# Altium integrated library National Semiconductor ADC.IntLib: 538 symbols (part 4 of 19)
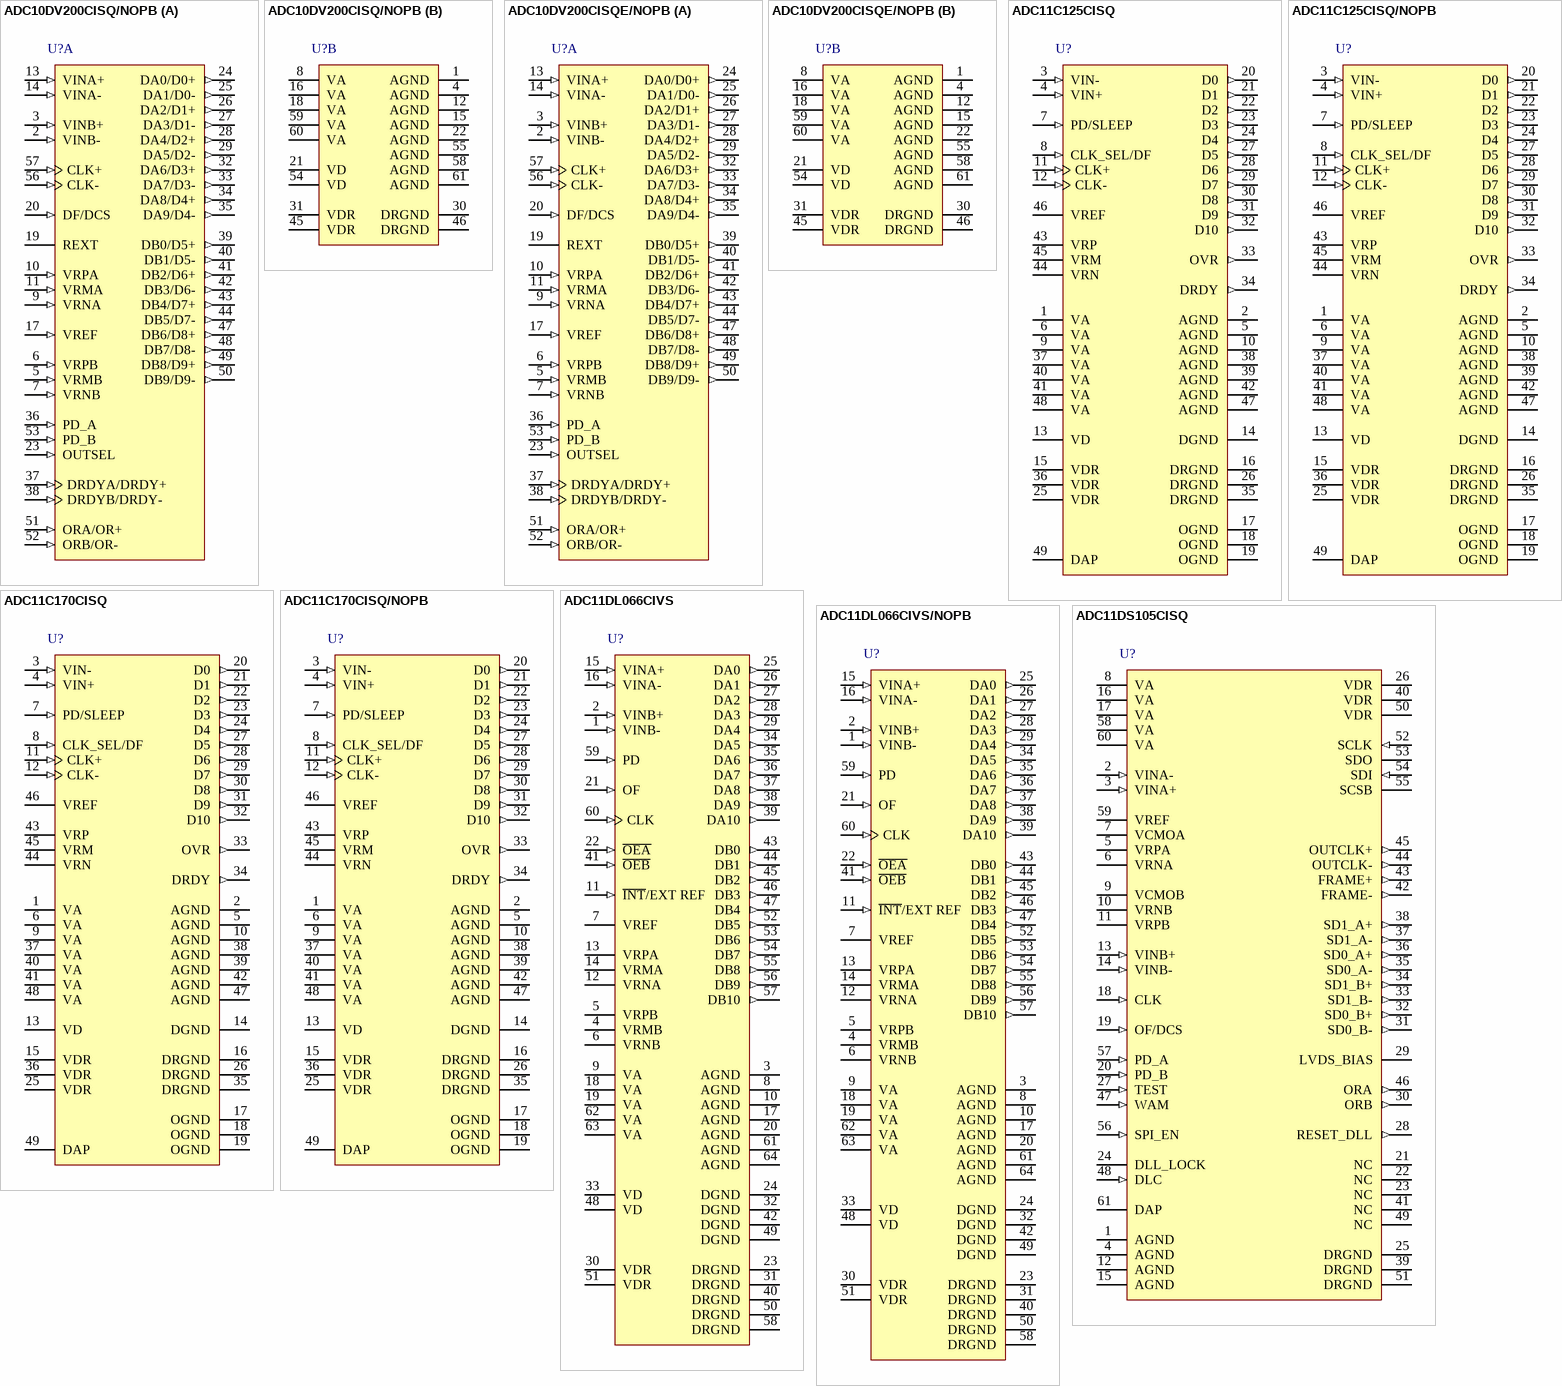
[diagram p48: symbols ADC10DV200CISQ/NOPB to ADC11DS105CISQ]

## ADC11DL066CIVS/NOPB
designator U?
Dual 11-Bit, 66 MSPS, 450 MHz Input Bandwidth A/D Converter w/Internal Reference, 64-pin TQFP, Pb-Free; PartNumber: ADC11DL066CIVS/NOPB; Manufacturer: National Semiconductor; PackageTopMarking: NSUZXYYTTE#*ADC11DL066*CIVS; PowerWise: N; CompType: ADC IC; High-Reliability: Y; DatasheetVersion: Mar-2004; PackageVersion: revB, Jul-2003; PackageReference: VEC64A; PackageDescription: TQFP, Jedec Metric, 10 x 10 x 1.0mm, 64 Lead, 0.5mm Pitch; RoHS: Y; PinCount: 64; Code_JEDEC: MS-026-ACD; ComponentLink1Description: ADC11DL066 Datasheet; ComponentLink1URL: http://www.national.com/ds/AD/ADC11DL066.pdf; ComponentLink2Description: ADC11DL066 Web Page; ComponentLink2URL: http://www.national.com/pf/AD/ADC11DL066.html; ComponentLink3Description: VEC64A Package Page; ComponentLink3URL: http://www.national.com/packaging/folders/vec64a.html
footprint VEC64A_N (Thin QFP, 64-Leads, Body 10x10mm, Pitch 0.5mm, IPC Medium Density)
footprint VEC64A_L (Thin QFP, 64-Leads, Body 10x10mm, Pitch 0.5mm, IPC High Density)
footprint VEC64A_M (Thin QFP, 64-Leads, Body 10x10mm, Pitch 0.5mm, IPC Low Density)
pins: 1 VINB- (in), 2 VINB+ (in), 3 AGND (power), 4 VRMB, 5 VRPB, 6 VRNB, 7 VREF (power), 8 AGND (power), 9 VA (power), 10 AGND (power), 11 ~{INT}/EXT REF (in), 12 VRNA, 13 VRPA, 14 VRMA, 15 VINA+ (in), 16 VINA- (in), 17 AGND (power), 18 VA (power), 19 VA (power), 20 AGND (power), 21 OF (in), 22 ~{OEA} (in), 23 DRGND (power), 24 DGND (power), 25 DA0 (out), 26 DA1 (out), 27 DA2 (out), 28 DA3 (out), 29 DA4 (out), 30 VDR (power), 31 DRGND (power), 32 DGND (power), 33 VD (power), 34 DA5 (out), 35 DA6 (out), 36 DA7 (out), 37 DA8 (out), 38 DA9 (out), 39 DA10 (out), 40 DRGND (power), 41 ~{OEB} (in), 42 DGND (power), 43 DB0 (out), 44 DB1 (out), 45 DB2 (out), 46 DB3 (out), 47 DB4 (out), 48 VD (power), 49 DGND (power), 50 DRGND (power), 51 VDR (power), 52 DB5 (out), 53 DB6 (out), 54 DB7 (out), 55 DB8 (out), 56 DB9 (out), 57 DB10 (out), 58 DRGND (power), 59 PD (in), 60 CLK (in), 61 AGND (power), 62 VA (power), 63 VA (power), 64 AGND (power)

## ADC11DS105CISQ
designator U?
Dual 11-Bit, 105 MSPS A/D Converter with Serial LVDS Outputs, 60 pin LLP; PartNumber: ADC11DS105CISQ; Manufacturer: National Semiconductor; PackageTopMarking: NS*UZXYTT*11DS105; PowerWise: N; CompType: ADC IC; High-Reliability: Y; DatasheetVersion: Nov-2009; PackageVersion: revA, Jun-2005; PackageReference: SQA60A; PackageDescription: LLP, Quad, 9 x 9 x 0.8mm, 60 Lead, 0.5mm Pitch, No Pullback; RoHS: N; PinCount: 60; ComponentLink1Description: ADC11DS105 Datasheet; ComponentLink1URL: http://www.national.com/ds/AD/ADC11DS105.pdf; ComponentLink2Description: ADC11DS105 Web Page; ComponentLink2URL: http://www.national.com/pf/AD/ADC11DS105.html; ComponentLink3Description: SQA60A Package Page; ComponentLink3URL: http://www.national.com/packaging/folders/sqa60a.html
footprint SQA60A (QFN, 60-Leads, Body 9x9mm, Pitch 0.5mm, Thermal Pad 7.3x7.3mm, NSC Recommended)
pins: 1 AGND (power), 2 VINA- (in), 3 VINA+ (in), 4 AGND (power), 5 VRPA, 6 VRNA, 7 VCMOA, 8 VA (power), 9 VCMOB, 10 VRNB, 11 VRPB, 12 AGND (power), 13 VINB+ (in), 14 VINB- (in), 15 AGND (power), 16 VA (power), 17 VA (power), 18 CLK (in), 19 OF/DCS (in), 20 PD_B (in), 21 NC, 22 NC, 23 NC, 24 DLL_LOCK, 25 DRGND (power), 26 VDR, 27 TEST (in), 28 RESET_DLL (out), 29 LVDS_BIAS, 30 ORB (out), 31 SD0_B- (out), 32 SD0_B+ (out), 33 SD1_B- (out), 34 SD1_B+ (out), 35 SD0_A- (out), 36 SD0_A+ (out), 37 SD1_A- (out), 38 SD1_A+ (out), 39 DRGND (power), 40 VDR, 41 NC, 42 FRAME- (out), 43 FRAME+ (out), 44 OUTCLK- (out), 45 OUTCLK+ (out), 46 ORA (out), 47 WAM (in), 48 DLC (in), 49 NC, 50 VDR, 51 DRGND (power), 52 SCLK (in), 53 SDO (hiz), 54 SDI (in), 55 SCSB, 56 SPI_EN (in), 57 PD_A (in), 58 VA (power), 59 VREF, 60 VA (power), 61 DAP

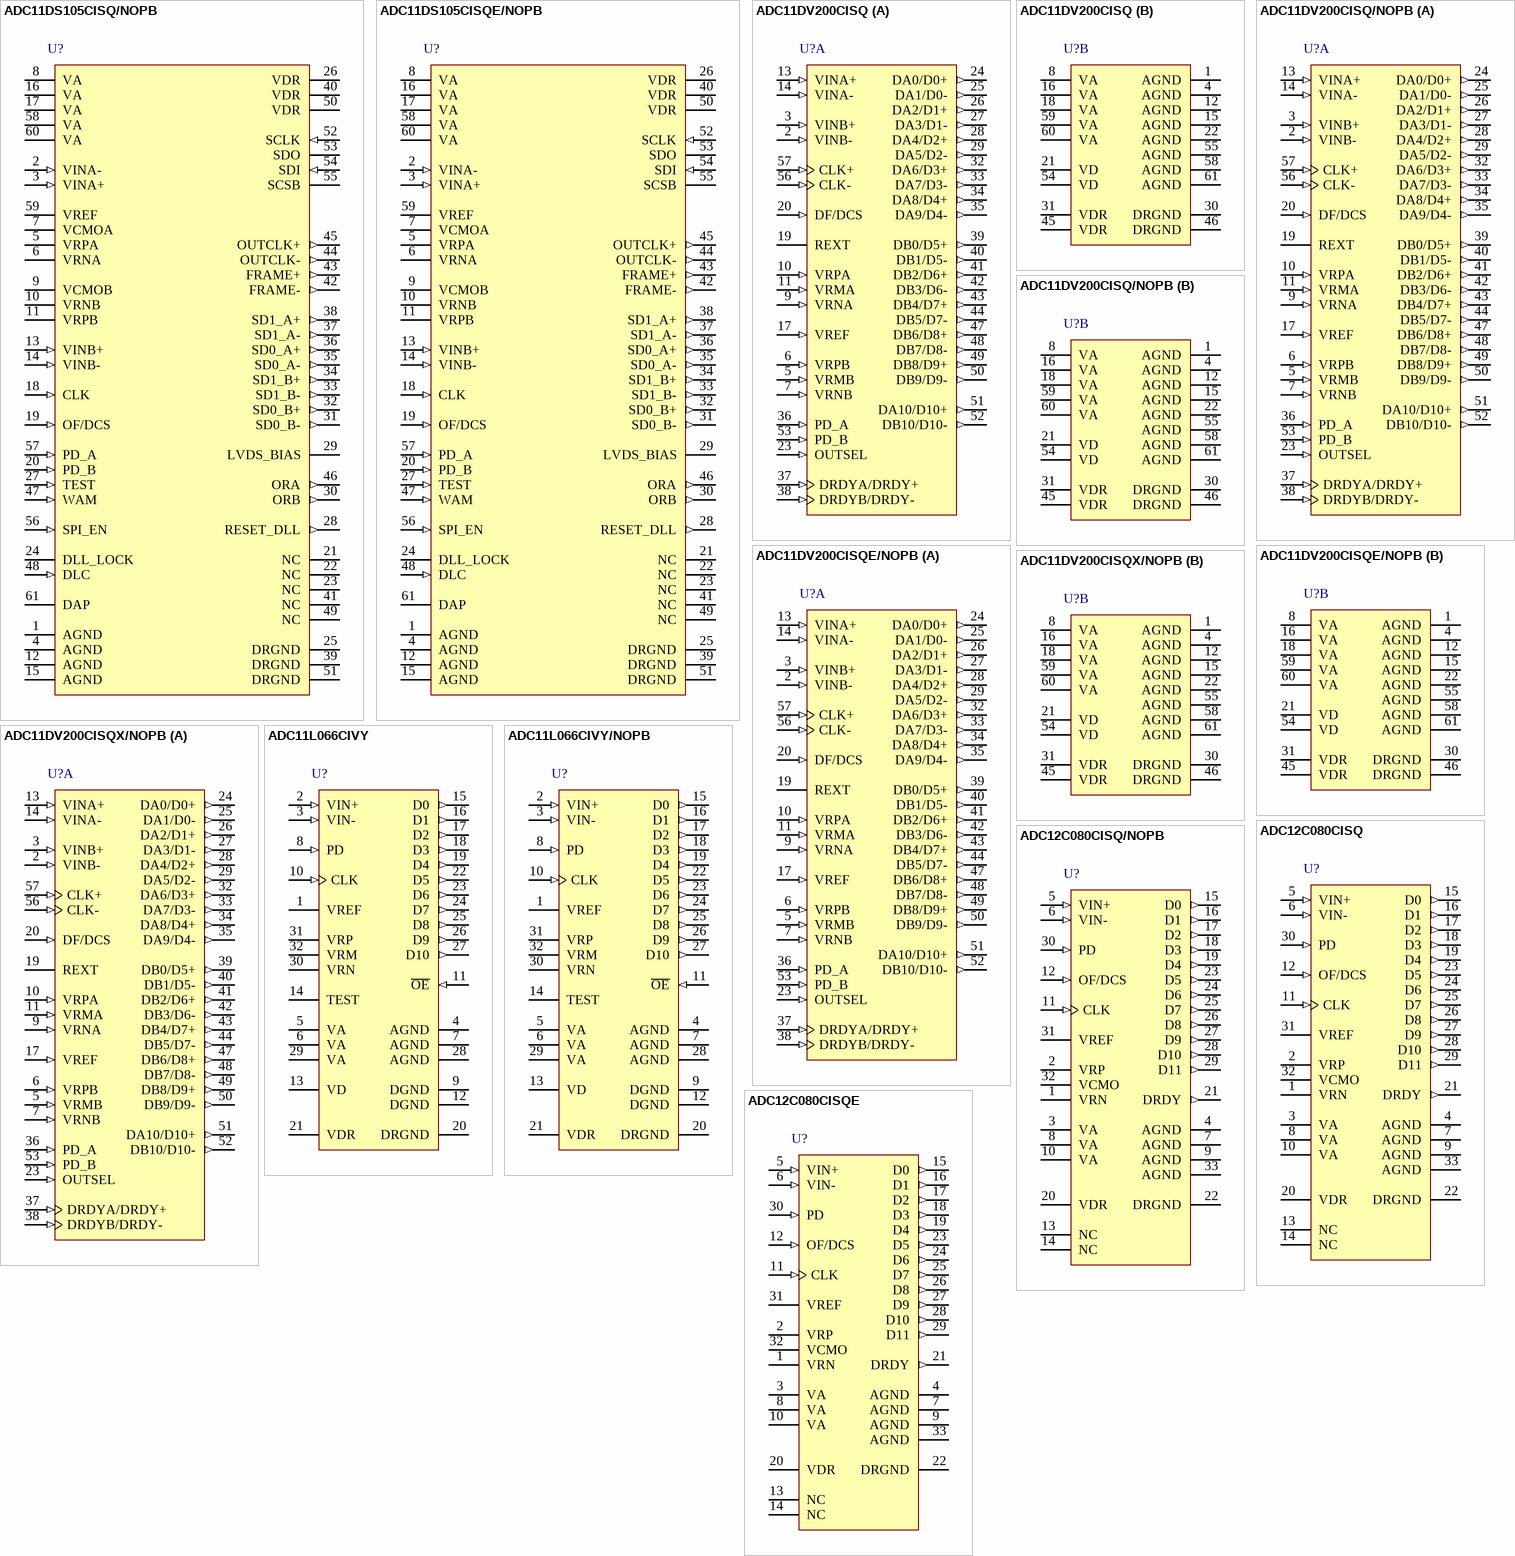
[diagram p12: symbols ADC11DS105CISQ/NOPB to ADC12C080CISQE]

## ADC11DS105CISQ/NOPB
designator U?
Dual 11-Bit, 105 MSPS A/D Converter with Serial LVDS Outputs, 60-pin LLP, Pb-Free; PartNumber: ADC11DS105CISQ/NOPB; Manufacturer: National Semiconductor; PackageTopMarking: NS*UZXYTTE#*11DS105; PowerWise: N; CompType: ADC IC; High-Reliability: Y; DatasheetVersion: Nov-2009; PackageVersion: revA, Jun-2005; PackageReference: SQA60A; PackageDescription: LLP, Quad, 9 x 9 x 0.8mm, 60 Lead, 0.5mm Pitch, No Pullback; RoHS: Y; PinCount: 60; ComponentLink1Description: ADC11DS105 Datasheet; ComponentLink1URL: http://www.national.com/ds/AD/ADC11DS105.pdf; ComponentLink2Description: ADC11DS105 Web Page; ComponentLink2URL: http://www.national.com/pf/AD/ADC11DS105.html; ComponentLink3Description: SQA60A Package Page; ComponentLink3URL: http://www.national.com/packaging/folders/sqa60a.html
footprint SQA60A (QFN, 60-Leads, Body 9x9mm, Pitch 0.5mm, Thermal Pad 7.3x7.3mm, NSC Recommended)
pins: 1 AGND (power), 2 VINA- (in), 3 VINA+ (in), 4 AGND (power), 5 VRPA, 6 VRNA, 7 VCMOA, 8 VA (power), 9 VCMOB, 10 VRNB, 11 VRPB, 12 AGND (power), 13 VINB+ (in), 14 VINB- (in), 15 AGND (power), 16 VA (power), 17 VA (power), 18 CLK (in), 19 OF/DCS (in), 20 PD_B (in), 21 NC, 22 NC, 23 NC, 24 DLL_LOCK, 25 DRGND (power), 26 VDR, 27 TEST (in), 28 RESET_DLL (out), 29 LVDS_BIAS, 30 ORB (out), 31 SD0_B- (out), 32 SD0_B+ (out), 33 SD1_B- (out), 34 SD1_B+ (out), 35 SD0_A- (out), 36 SD0_A+ (out), 37 SD1_A- (out), 38 SD1_A+ (out), 39 DRGND (power), 40 VDR, 41 NC, 42 FRAME- (out), 43 FRAME+ (out), 44 OUTCLK- (out), 45 OUTCLK+ (out), 46 ORA (out), 47 WAM (in), 48 DLC (in), 49 NC, 50 VDR, 51 DRGND (power), 52 SCLK (in), 53 SDO (hiz), 54 SDI (in), 55 SCSB, 56 SPI_EN (in), 57 PD_A (in), 58 VA (power), 59 VREF, 60 VA (power), 61 DAP

## ADC11DS105CISQE/NOPB
designator U?
Dual 11-Bit, 105 MSPS A/D Converter with Serial LVDS Outputs, 60-pin LLP, Pb-Free; PartNumber: ADC11DS105CISQE/NOPB; Manufacturer: National Semiconductor; PackageTopMarking: NS*UZXYTTE#*11DS105; PowerWise: N; CompType: ADC IC; High-Reliability: Y; DatasheetVersion: Nov-2009; PackageVersion: revA, Jun-2005; PackageReference: SQA60A; PackageDescription: LLP, Quad, 9 x 9 x 0.8mm, 60 Lead, 0.5mm Pitch, No Pullback; RoHS: Y; PinCount: 60; ComponentLink1Description: ADC11DS105 Datasheet; ComponentLink1URL: http://www.national.com/ds/AD/ADC11DS105.pdf; ComponentLink2Description: ADC11DS105 Web Page; ComponentLink2URL: http://www.national.com/pf/AD/ADC11DS105.html; ComponentLink3Description: SQA60A Package Page; ComponentLink3URL: http://www.national.com/packaging/folders/sqa60a.html
footprint SQA60A (QFN, 60-Leads, Body 9x9mm, Pitch 0.5mm, Thermal Pad 7.3x7.3mm, NSC Recommended)
pins: 1 AGND (power), 2 VINA- (in), 3 VINA+ (in), 4 AGND (power), 5 VRPA, 6 VRNA, 7 VCMOA, 8 VA (power), 9 VCMOB, 10 VRNB, 11 VRPB, 12 AGND (power), 13 VINB+ (in), 14 VINB- (in), 15 AGND (power), 16 VA (power), 17 VA (power), 18 CLK (in), 19 OF/DCS (in), 20 PD_B (in), 21 NC, 22 NC, 23 NC, 24 DLL_LOCK, 25 DRGND (power), 26 VDR, 27 TEST (in), 28 RESET_DLL (out), 29 LVDS_BIAS, 30 ORB (out), 31 SD0_B- (out), 32 SD0_B+ (out), 33 SD1_B- (out), 34 SD1_B+ (out), 35 SD0_A- (out), 36 SD0_A+ (out), 37 SD1_A- (out), 38 SD1_A+ (out), 39 DRGND (power), 40 VDR, 41 NC, 42 FRAME- (out), 43 FRAME+ (out), 44 OUTCLK- (out), 45 OUTCLK+ (out), 46 ORA (out), 47 WAM (in), 48 DLC (in), 49 NC, 50 VDR, 51 DRGND (power), 52 SCLK (in), 53 SDO (hiz), 54 SDI (in), 55 SCSB, 56 SPI_EN (in), 57 PD_A (in), 58 VA (power), 59 VREF, 60 VA (power), 61 DAP

## ADC11DV200CISQ
designator U?
Dual 11-bit, 200 MSPS Low-Power A/D Converter with Parallel LVDS/CMOS Outputs, 60 pin LLP; PartNumber: ADC11DV200CISQ; Manufacturer: National Semiconductor; PackageTopMarking: NS*UZXYTT*11DV200*CISQ; PowerWise: N; CompType: ADC IC; High-Reliability: Y; DatasheetVersion: Apr-2009; PackageVersion: revA, Jun-2005; PackageReference: SQA60A; PackageDescription: LLP, Quad, 9 x 9 x 0.8mm, 60 Lead, 0.5mm Pitch, No Pullback; RoHS: Y; PinCount: 60; ComponentLink1Description: ADC11DV200 Datasheet; ComponentLink1URL: http://www.national.com/ds/AD/ADC11DV200.pdf; ComponentLink2Description: ADC11DV200 Web Page; ComponentLink2URL: http://www.national.com/pf/AD/ADC11DV200.html; ComponentLink3Description: SQA60A Package Page; ComponentLink3URL: http://www.national.com/packaging/folders/sqa60a.html
footprint SQA60A (QFN, 60-Leads, Body 9x9mm, Pitch 0.5mm, Thermal Pad 7.3x7.3mm, NSC Recommended)
part A pins: 2 VINB- (in), 3 VINB+ (in), 5 VRMB (in), 6 VRPB (in), 7 VRNB (in), 9 VRNA (in), 10 VRPA (in), 11 VRMA (in), 13 VINA+ (in), 14 VINA- (in), 17 VREF (in), 19 REXT, 20 DF/DCS (in), 23 OUTSEL (in), 24 DA0/D0+ (out), 25 DA1/D0- (out), 26 DA2/D1+ (out), 27 DA3/D1- (out), 28 DA4/D2+ (out), 29 DA5/D2- (out), 32 DA6/D3+ (out), 33 DA7/D3- (out), 34 DA8/D4+ (out), 35 DA9/D4- (out), 36 PD_A (in), 37 DRDYA/DRDY+ (in), 38 DRDYB/DRDY- (in), 39 DB0/D5+ (out), 40 DB1/D5- (out), 41 DB2/D6+ (out), 42 DB3/D6- (out), 43 DB4/D7+ (out), 44 DB5/D7- (out), 47 DB6/D8+ (out), 48 DB7/D8- (out), 49 DB8/D9+ (out), 50 DB9/D9- (out), 51 DA10/D10+ (out), 52 DB10/D10- (out), 53 PD_B (in), 56 CLK- (in), 57 CLK+ (in)
part B pins: 1 AGND (power), 4 AGND (power), 8 VA (power), 12 AGND (power), 15 AGND (power), 16 VA (power), 18 VA (power), 21 VD (power), 22 AGND (power), 30 DRGND (power), 31 VDR (power), 45 VDR (power), 46 DRGND (power), 54 VD (power), 55 AGND (power), 58 AGND (power), 59 VA (power), 60 VA (power), 61 AGND (power)

## ADC11DV200CISQ/NOPB
designator U?
Dual 11-bit, 200 MSPS Low-Power A/D Converter with Parallel LVDS/CMOS Outputs, 60-pin LLP, Pb-Free; PartNumber: ADC11DV200CISQ/NOPB; Manufacturer: National Semiconductor; PackageTopMarking: NS*UZXYTTE#*11DV200*CISQ; PowerWise: Y; CompType: ADC IC; DatasheetVersion: Apr-2009; PackageVersion: revA, Jun-2005; PackageReference: SQA60A; PackageDescription: LLP, Quad, 9 x 9 x 0.8mm, 60 Lead, 0.5mm Pitch, No Pullback; RoHS: Y; PinCount: 60; High-Reliability: Y; ComponentLink1Description: ADC11DV200 Datasheet; ComponentLink1URL: http://www.national.com/ds/AD/ADC11DV200.pdf; ComponentLink2Description: ADC11DV200 Web Page; ComponentLink2URL: http://www.national.com/pf/AD/ADC11DV200.html; ComponentLink3Description: SQA60A Package Page; ComponentLink3URL: http://www.national.com/packaging/folders/sqa60a.html
footprint SQA60A (QFN, 60-Leads, Body 9x9mm, Pitch 0.5mm, Thermal Pad 7.3x7.3mm, NSC Recommended)
part A pins: 2 VINB- (in), 3 VINB+ (in), 5 VRMB (in), 6 VRPB (in), 7 VRNB (in), 9 VRNA (in), 10 VRPA (in), 11 VRMA (in), 13 VINA+ (in), 14 VINA- (in), 17 VREF (in), 19 REXT, 20 DF/DCS (in), 23 OUTSEL (in), 24 DA0/D0+ (out), 25 DA1/D0- (out), 26 DA2/D1+ (out), 27 DA3/D1- (out), 28 DA4/D2+ (out), 29 DA5/D2- (out), 32 DA6/D3+ (out), 33 DA7/D3- (out), 34 DA8/D4+ (out), 35 DA9/D4- (out), 36 PD_A (in), 37 DRDYA/DRDY+ (in), 38 DRDYB/DRDY- (in), 39 DB0/D5+ (out), 40 DB1/D5- (out), 41 DB2/D6+ (out), 42 DB3/D6- (out), 43 DB4/D7+ (out), 44 DB5/D7- (out), 47 DB6/D8+ (out), 48 DB7/D8- (out), 49 DB8/D9+ (out), 50 DB9/D9- (out), 51 DA10/D10+ (out), 52 DB10/D10- (out), 53 PD_B (in), 56 CLK- (in), 57 CLK+ (in)
part B pins: 1 AGND (power), 4 AGND (power), 8 VA (power), 12 AGND (power), 15 AGND (power), 16 VA (power), 18 VA (power), 21 VD (power), 22 AGND (power), 30 DRGND (power), 31 VDR (power), 45 VDR (power), 46 DRGND (power), 54 VD (power), 55 AGND (power), 58 AGND (power), 59 VA (power), 60 VA (power), 61 AGND (power)

## ADC11DV200CISQE/NOPB
designator U?
Dual 11-bit, 200 MSPS Low-Power A/D Converter with Parallel LVDS/CMOS Outputs, 60-pin LLP, Pb-Free; PartNumber: ADC11DV200CISQE/NOPB; Manufacturer: National Semiconductor; PackageTopMarking: NS*UZXYTTE#*11DV200*CISQ; PowerWise: Y; CompType: ADC IC; DatasheetVersion: Apr-2009; PackageVersion: revA, Jun-2005; PackageReference: SQA60A; PackageDescription: LLP, Quad, 9 x 9 x 0.8mm, 60 Lead, 0.5mm Pitch, No Pullback; RoHS: Y; PinCount: 60; High-Reliability: Y; ComponentLink1Description: ADC11DV200 Datasheet; ComponentLink1URL: http://www.national.com/ds/AD/ADC11DV200.pdf; ComponentLink2Description: ADC11DV200 Web Page; ComponentLink2URL: http://www.national.com/pf/AD/ADC11DV200.html; ComponentLink3Description: SQA60A Package Page; ComponentLink3URL: http://www.national.com/packaging/folders/sqa60a.html
footprint SQA60A (QFN, 60-Leads, Body 9x9mm, Pitch 0.5mm, Thermal Pad 7.3x7.3mm, NSC Recommended)
part A pins: 2 VINB- (in), 3 VINB+ (in), 5 VRMB (in), 6 VRPB (in), 7 VRNB (in), 9 VRNA (in), 10 VRPA (in), 11 VRMA (in), 13 VINA+ (in), 14 VINA- (in), 17 VREF (in), 19 REXT, 20 DF/DCS (in), 23 OUTSEL (in), 24 DA0/D0+ (out), 25 DA1/D0- (out), 26 DA2/D1+ (out), 27 DA3/D1- (out), 28 DA4/D2+ (out), 29 DA5/D2- (out), 32 DA6/D3+ (out), 33 DA7/D3- (out), 34 DA8/D4+ (out), 35 DA9/D4- (out), 36 PD_A (in), 37 DRDYA/DRDY+ (in), 38 DRDYB/DRDY- (in), 39 DB0/D5+ (out), 40 DB1/D5- (out), 41 DB2/D6+ (out), 42 DB3/D6- (out), 43 DB4/D7+ (out), 44 DB5/D7- (out), 47 DB6/D8+ (out), 48 DB7/D8- (out), 49 DB8/D9+ (out), 50 DB9/D9- (out), 51 DA10/D10+ (out), 52 DB10/D10- (out), 53 PD_B (in), 56 CLK- (in), 57 CLK+ (in)
part B pins: 1 AGND (power), 4 AGND (power), 8 VA (power), 12 AGND (power), 15 AGND (power), 16 VA (power), 18 VA (power), 21 VD (power), 22 AGND (power), 30 DRGND (power), 31 VDR (power), 45 VDR (power), 46 DRGND (power), 54 VD (power), 55 AGND (power), 58 AGND (power), 59 VA (power), 60 VA (power), 61 AGND (power)

## ADC11DV200CISQX/NOPB
designator U?
Dual 11-bit, 200 MSPS Low-Power A/D Converter with Parallel LVDS/CMOS Outputs, 60-pin LLP, Pb-Free; PartNumber: ADC11DV200CISQX/NOPB; Manufacturer: National Semiconductor; PackageTopMarking: NS*UZXYTTE#*11DV200*CISQ; PowerWise: Y; CompType: ADC IC; DatasheetVersion: Apr-2009; PackageVersion: revA, Jun-2005; PackageReference: SQA60A; PackageDescription: LLP, Quad, 9 x 9 x 0.8mm, 60 Lead, 0.5mm Pitch, No Pullback; RoHS: Y; PinCount: 60; High-Reliability: Y; ComponentLink1Description: ADC11DV200 Datasheet; ComponentLink1URL: http://www.national.com/ds/AD/ADC11DV200.pdf; ComponentLink2Description: ADC11DV200 Web Page; ComponentLink2URL: http://www.national.com/pf/AD/ADC11DV200.html; ComponentLink3Description: SQA60A Package Page; ComponentLink3URL: http://www.national.com/packaging/folders/sqa60a.html
footprint SQA60A (QFN, 60-Leads, Body 9x9mm, Pitch 0.5mm, Thermal Pad 7.3x7.3mm, NSC Recommended)
part A pins: 2 VINB- (in), 3 VINB+ (in), 5 VRMB (in), 6 VRPB (in), 7 VRNB (in), 9 VRNA (in), 10 VRPA (in), 11 VRMA (in), 13 VINA+ (in), 14 VINA- (in), 17 VREF (in), 19 REXT, 20 DF/DCS (in), 23 OUTSEL (in), 24 DA0/D0+ (out), 25 DA1/D0- (out), 26 DA2/D1+ (out), 27 DA3/D1- (out), 28 DA4/D2+ (out), 29 DA5/D2- (out), 32 DA6/D3+ (out), 33 DA7/D3- (out), 34 DA8/D4+ (out), 35 DA9/D4- (out), 36 PD_A (in), 37 DRDYA/DRDY+ (in), 38 DRDYB/DRDY- (in), 39 DB0/D5+ (out), 40 DB1/D5- (out), 41 DB2/D6+ (out), 42 DB3/D6- (out), 43 DB4/D7+ (out), 44 DB5/D7- (out), 47 DB6/D8+ (out), 48 DB7/D8- (out), 49 DB8/D9+ (out), 50 DB9/D9- (out), 51 DA10/D10+ (out), 52 DB10/D10- (out), 53 PD_B (in), 56 CLK- (in), 57 CLK+ (in)
part B pins: 1 AGND (power), 4 AGND (power), 8 VA (power), 12 AGND (power), 15 AGND (power), 16 VA (power), 18 VA (power), 21 VD (power), 22 AGND (power), 30 DRGND (power), 31 VDR (power), 45 VDR (power), 46 DRGND (power), 54 VD (power), 55 AGND (power), 58 AGND (power), 59 VA (power), 60 VA (power), 61 AGND (power)

## ADC11L066CIVY
designator U?
11-Bit, 66 MSPS, 450 MHz Bandwidth A/D Converter with Internal Sample-and-Hold, 32-pin LQFP; PartNumber: ADC11L066CIVY; Manufacturer: National Semiconductor; PackageTopMarking: NSUZXYTT*ADC11L0*66CIVY; PowerWise: N; CompType: ADC IC; High-Reliability: Y; DatasheetVersion: May-2009; PackageVersion: revE, Dec-1999; PackageReference: VBE32A; PackageDescription: LQFP, JEDEC, Metric, 7 x 7 x 1.4mm, 32 Lead; RoHS: N; PinCount: 32; ComponentLink1Description: ADC11L066 Datasheet; ComponentLink1URL: http://www.national.com/ds/AD/ADC11L066.pdf; ComponentLink2Description: ADC11L066 Web Page; ComponentLink2URL: http://www.national.com/pf/AD/ADC11L066.html; ComponentLink3Description: VBE32A Package Page; ComponentLink3URL: http://www.national.com/packaging/folders/vbe32a.html
footprint VBE32A_N (Thin QFP, 32-Leads, Body 7x7mm, Pitch 0.8mm, IPC Medium Density)
footprint VBE32A_L (Thin QFP, 32-Leads, Body 7x7mm, Pitch 0.8mm, IPC High Density)
footprint VBE32A_M (Thin QFP, 32-Leads, Body 7x7mm, Pitch 0.8mm, IPC Low Density)
pins: 1 VREF (power), 2 VIN+ (in), 3 VIN- (in), 4 AGND (power), 5 VA (power), 6 VA (power), 7 AGND (power), 8 PD (in), 9 DGND (power), 10 CLK (in), 11 ~{OE} (in), 12 DGND (power), 13 VD (power), 14 TEST, 15 D0 (out), 16 D1 (out), 17 D2 (out), 18 D3 (out), 19 D4 (out), 20 DRGND (power), 21 VDR (power), 22 D5 (out), 23 D6 (out), 24 D7 (out), 25 D8 (out), 26 D9 (out), 27 D10 (out), 28 AGND (power), 29 VA (power), 30 VRN, 31 VRP, 32 VRM

## ADC11L066CIVY/NOPB
designator U?
11-Bit, 66 MSPS, 450 MHz Bandwidth A/D Converter with Internal Sample-and-Hold, 32-pin LQFP, Pb-Free; PartNumber: ADC11L066CIVY/NOPB; Manufacturer: National Semiconductor; PackageTopMarking: NSUZXYTT*ADC11L0*66CIVY; PowerWise: N; CompType: ADC IC; High-Reliability: Y; DatasheetVersion: May-2009; PackageVersion: revE, Dec-1999; PackageReference: VBE32A; PackageDescription: LQFP, JEDEC, Metric, 7 x 7 x 1.4mm, 32 Lead; RoHS: Y; PinCount: 32; ComponentLink1Description: ADC11L066 Datasheet; ComponentLink1URL: http://www.national.com/ds/AD/ADC11L066.pdf; ComponentLink2Description: ADC11L066 Web Page; ComponentLink2URL: http://www.national.com/pf/AD/ADC11L066.html; ComponentLink3Description: VBE32A Package Page; ComponentLink3URL: http://www.national.com/packaging/folders/vbe32a.html
footprint VBE32A_N (Thin QFP, 32-Leads, Body 7x7mm, Pitch 0.8mm, IPC Medium Density)
footprint VBE32A_L (Thin QFP, 32-Leads, Body 7x7mm, Pitch 0.8mm, IPC High Density)
footprint VBE32A_M (Thin QFP, 32-Leads, Body 7x7mm, Pitch 0.8mm, IPC Low Density)
pins: 1 VREF (power), 2 VIN+ (in), 3 VIN- (in), 4 AGND (power), 5 VA (power), 6 VA (power), 7 AGND (power), 8 PD (in), 9 DGND (power), 10 CLK (in), 11 ~{OE} (in), 12 DGND (power), 13 VD (power), 14 TEST, 15 D0 (out), 16 D1 (out), 17 D2 (out), 18 D3 (out), 19 D4 (out), 20 DRGND (power), 21 VDR (power), 22 D5 (out), 23 D6 (out), 24 D7 (out), 25 D8 (out), 26 D9 (out), 27 D10 (out), 28 AGND (power), 29 VA (power), 30 VRN, 31 VRP, 32 VRM

## ADC12C080CISQ
designator U?
12-Bit, 65/80 MSPS A/D Converter, 33-pin LLP; PartNumber: ADC12C080CISQ; Manufacturer: National Semiconductor; PackageTopMarking: NS*UZXYTT*12C080; PowerWise: Y; CompType: ADC IC; DatasheetVersion: Aug-2007; PackageVersion: revB, Oct-2009; PackageReference: SQA32A; PackageDescription: LLP, Quad, 5 x 5 x 0.8mm, 32 Lead, 0.5mm Pitch, No Pullback 3.1 x 3.1 Exposed Pad; RoHS: N; PinCount: 32; High-Reliability: Y; ComponentLink1Description: ADC12C080 Datasheet; ComponentLink1URL: http://www.national.com/ds/AD/ADC12C080.pdf; ComponentLink2Description: ADC12C080 Web Page; ComponentLink2URL: http://www.national.com/pf/AD/ADC12C080.html; ComponentLink3Description: SQA32A Package Page; ComponentLink3URL: http://www.national.com/packaging/folders/sqa32a.html
footprint SQA32A (QFN, 32-Leads, Body 5x5mm, Pitch 0.5mm, Thermal Pad 3.2x3.2mm, NSC Recommended)
pins: 1 VRN, 2 VRP, 3 VA (power), 4 AGND (power), 5 VIN+ (in), 6 VIN- (in), 7 AGND (power), 8 VA (power), 9 AGND (power), 10 VA (power), 11 CLK (in), 12 OF/DCS (in), 13 NC, 14 NC, 15 D0 (out), 16 D1 (out), 17 D2 (out), 18 D3 (out), 19 D4 (out), 20 VDR (power), 21 DRDY (out), 22 DRGND (power), 23 D5 (out), 24 D6 (out), 25 D7 (out), 26 D8 (out), 27 D9 (out), 28 D10 (out), 29 D11 (out), 30 PD (in), 31 VREF (power), 32 VCMO, 33 AGND (power)

## ADC12C080CISQ/NOPB
designator U?
12-Bit, 65/80 MSPS A/D Converter, 32-pin LLP, Pb-Free; PartNumber: ADC12C080CISQ/NOPB; Manufacturer: National Semiconductor; PackageTopMarking: NS*UZXYTT*12C080; PowerWise: Y; CompType: ADC IC; DatasheetVersion: Aug-2007; PackageVersion: revB, Oct-2009; PackageReference: SQA32A; PackageDescription: LLP, Quad, 5 x 5 x 0.8mm, 32 Lead, 0.5mm Pitch, No Pullback 3.1 x 3.1 Exposed Pad; RoHS: Y; PinCount: 32; High-Reliability: Y; ComponentLink1Description: ADC12C080 Datasheet; ComponentLink1URL: http://www.national.com/ds/AD/ADC12C080.pdf; ComponentLink2Description: ADC12C080 Web Page; ComponentLink2URL: http://www.national.com/pf/AD/ADC12C080.html; ComponentLink3Description: SQA32A Package Page; ComponentLink3URL: http://www.national.com/packaging/folders/sqa32a.html
footprint SQA32A (QFN, 32-Leads, Body 5x5mm, Pitch 0.5mm, Thermal Pad 3.2x3.2mm, NSC Recommended)
pins: 1 VRN, 2 VRP, 3 VA (power), 4 AGND (power), 5 VIN+ (in), 6 VIN- (in), 7 AGND (power), 8 VA (power), 9 AGND (power), 10 VA (power), 11 CLK (in), 12 OF/DCS (in), 13 NC, 14 NC, 15 D0 (out), 16 D1 (out), 17 D2 (out), 18 D3 (out), 19 D4 (out), 20 VDR (power), 21 DRDY (out), 22 DRGND (power), 23 D5 (out), 24 D6 (out), 25 D7 (out), 26 D8 (out), 27 D9 (out), 28 D10 (out), 29 D11 (out), 30 PD (in), 31 VREF (power), 32 VCMO, 33 AGND (power)

## ADC12C080CISQE
designator U?
12-Bit, 65/80 MSPS A/D Converter, 33-pin LLP; PartNumber: ADC12C080CISQE; Manufacturer: National Semiconductor; PackageTopMarking: NS*UZXYTT*12C080E; PowerWise: Y; CompType: ADC IC; DatasheetVersion: Aug-2007; PackageVersion: revB, Oct-2009; PackageReference: SQA32A; PackageDescription: LLP, Quad, 5 x 5 x 0.8mm, 32 Lead, 0.5mm Pitch, No Pullback 3.1 x 3.1 Exposed Pad; RoHS: Y; PinCount: 32; High-Reliability: Y; ComponentLink1Description: ADC12C080 Datasheet; ComponentLink1URL: http://www.national.com/ds/AD/ADC12C080.pdf; ComponentLink2Description: ADC12C080 Web Page; ComponentLink2URL: http://www.national.com/pf/AD/ADC12C080.html; ComponentLink3Description: SQA32A Package Page; ComponentLink3URL: http://www.national.com/packaging/folders/sqa32a.html
footprint SQA32A (QFN, 32-Leads, Body 5x5mm, Pitch 0.5mm, Thermal Pad 3.2x3.2mm, NSC Recommended)
pins: 1 VRN, 2 VRP, 3 VA (power), 4 AGND (power), 5 VIN+ (in), 6 VIN- (in), 7 AGND (power), 8 VA (power), 9 AGND (power), 10 VA (power), 11 CLK (in), 12 OF/DCS (in), 13 NC, 14 NC, 15 D0 (out), 16 D1 (out), 17 D2 (out), 18 D3 (out), 19 D4 (out), 20 VDR (power), 21 DRDY (out), 22 DRGND (power), 23 D5 (out), 24 D6 (out), 25 D7 (out), 26 D8 (out), 27 D9 (out), 28 D10 (out), 29 D11 (out), 30 PD (in), 31 VREF (power), 32 VCMO, 33 AGND (power)

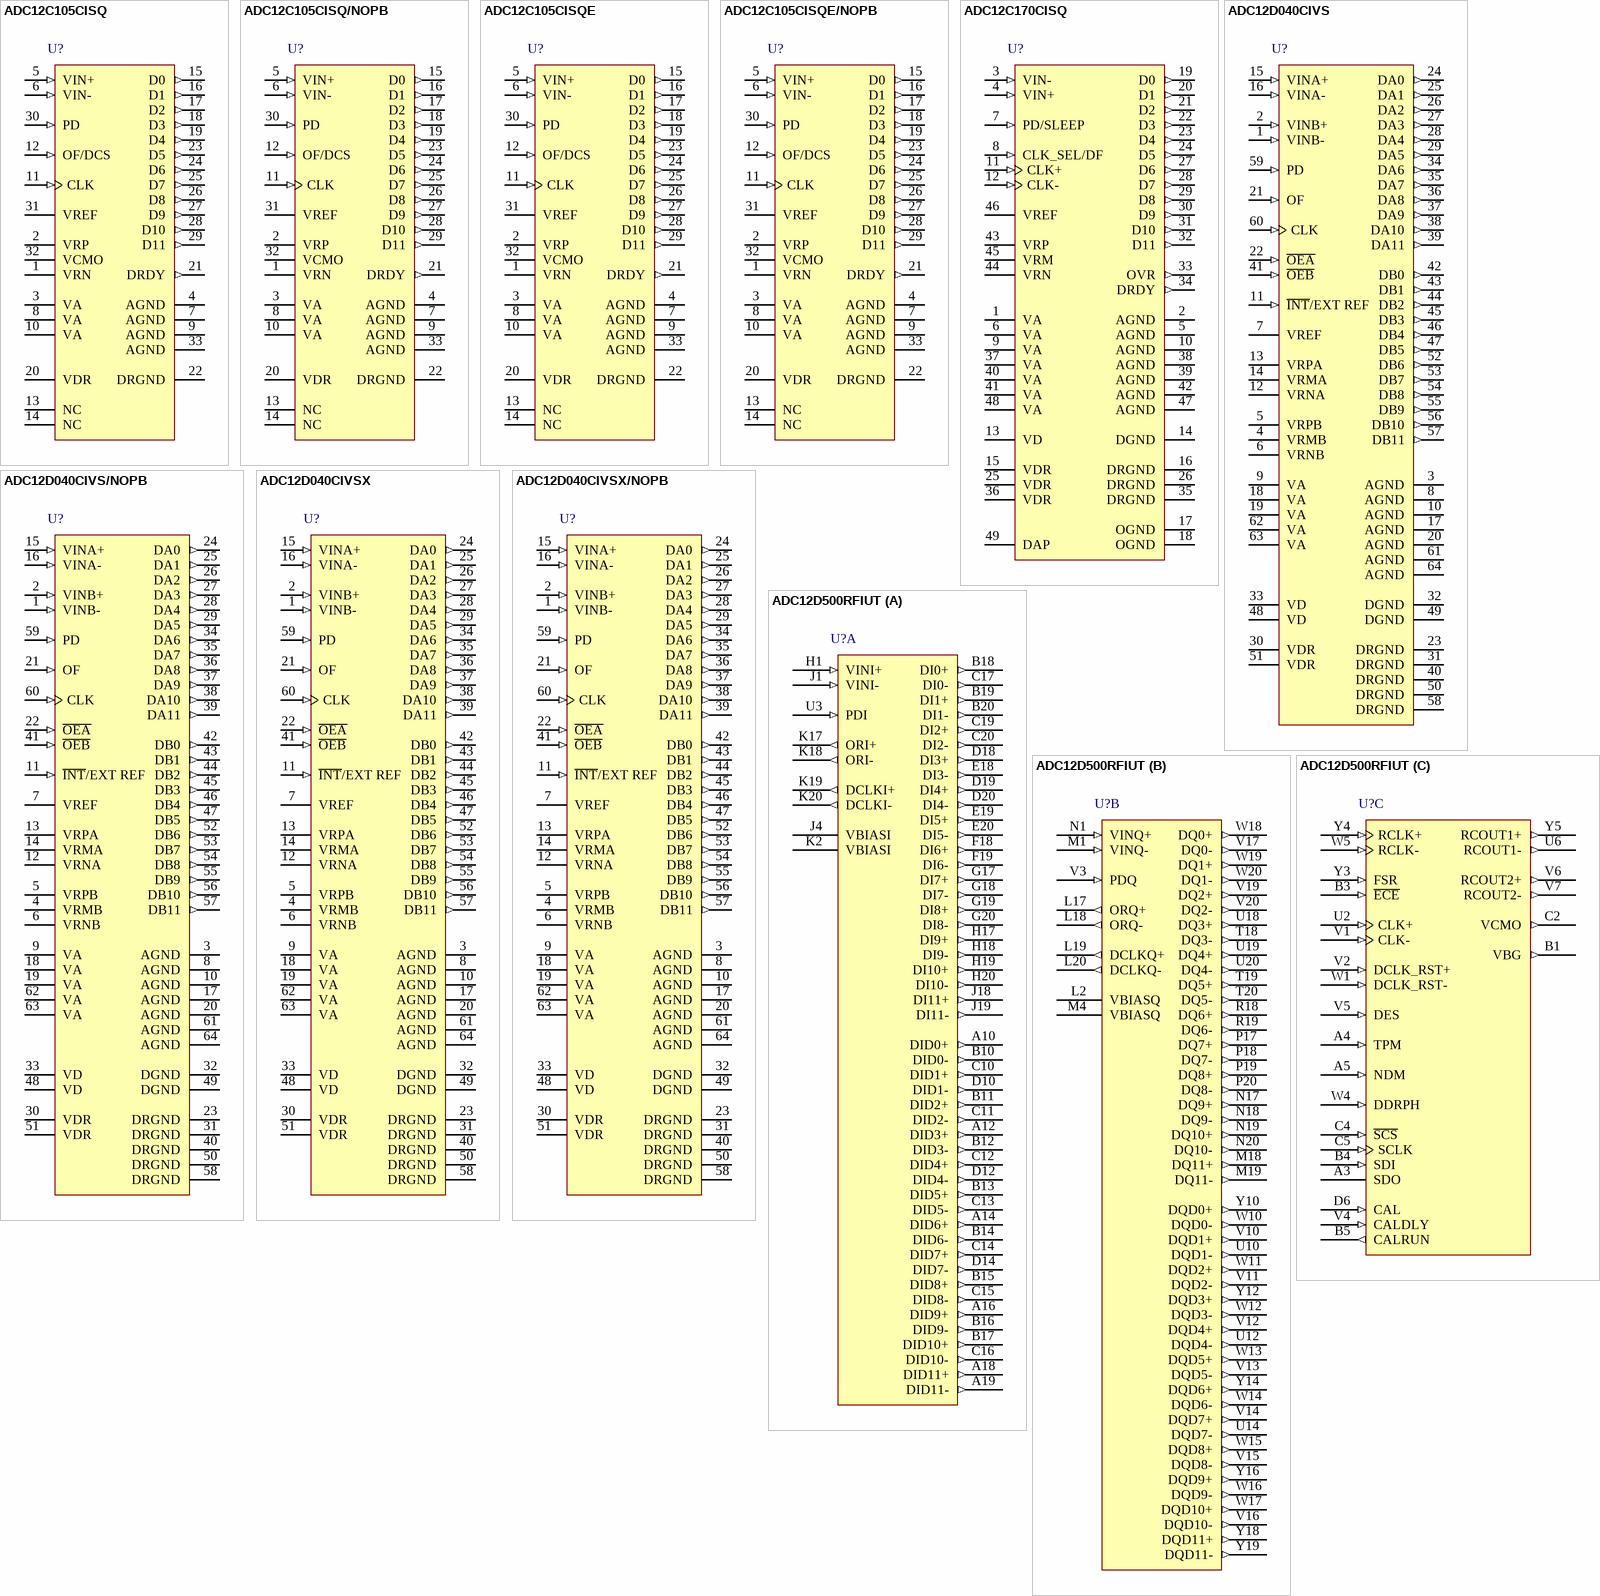
[diagram p13: symbols ADC12C105CISQ to ADC12D500RFIUT]

## ADC12C105CISQ
designator U?
12-Bit, 105 MSPS A/D Converter, 33-pin LLP; PartNumber: ADC12C105CISQ; Manufacturer: National Semiconductor; PackageTopMarking: NS*UZXYTT*12C105; PowerWise: Y; CompType: ADC IC; DatasheetVersion: Jul-2007; PackageVersion: revB, Oct-2009; PackageReference: SQA32A; PackageDescription: LLP, Quad, 5 x 5 x 0.8mm, 32 Lead, 0.5mm Pitch, No Pullback 3.1 x 3.1 Exposed Pad; RoHS: N; PinCount: 32; High-Reliability: Y; ComponentLink1Description: ADC12C105 Datasheet; ComponentLink1URL: http://www.national.com/ds/AD/ADC12C105.pdf; ComponentLink2Description: ADC12C105 Web Page; ComponentLink2URL: http://www.national.com/pf/AD/ADC12C105.html; ComponentLink3Description: SQA32A Package Page; ComponentLink3URL: http://www.national.com/packaging/folders/sqa32a.html
footprint SQA32A (QFN, 32-Leads, Body 5x5mm, Pitch 0.5mm, Thermal Pad 3.2x3.2mm, NSC Recommended)
pins: 1 VRN, 2 VRP, 3 VA (power), 4 AGND (power), 5 VIN+ (in), 6 VIN- (in), 7 AGND (power), 8 VA (power), 9 AGND (power), 10 VA (power), 11 CLK (in), 12 OF/DCS (in), 13 NC, 14 NC, 15 D0 (out), 16 D1 (out), 17 D2 (out), 18 D3 (out), 19 D4 (out), 20 VDR (power), 21 DRDY (out), 22 DRGND (power), 23 D5 (out), 24 D6 (out), 25 D7 (out), 26 D8 (out), 27 D9 (out), 28 D10 (out), 29 D11 (out), 30 PD (in), 31 VREF (power), 32 VCMO, 33 AGND (power)

## ADC12C105CISQ/NOPB
designator U?
12-Bit, 105 MSPS A/D Converter, 32-pin LLP, Pb-Free; PartNumber: ADC12C105CISQ/NOPB; Manufacturer: National Semiconductor; PackageTopMarking: NS*UZXYTT*12C105; PowerWise: Y; CompType: ADC IC; DatasheetVersion: Jul-2007; PackageVersion: revB, Oct-2009; PackageReference: SQA32A; PackageDescription: LLP, Quad, 5 x 5 x 0.8mm, 32 Lead, 0.5mm Pitch, No Pullback 3.1 x 3.1 Exposed Pad; RoHS: Y; PinCount: 32; High-Reliability: Y; ComponentLink1Description: ADC12C105 Datasheet; ComponentLink1URL: http://www.national.com/ds/AD/ADC12C105.pdf; ComponentLink2Description: ADC12C105 Web Page; ComponentLink2URL: http://www.national.com/pf/AD/ADC12C105.html; ComponentLink3Description: SQA32A Package Page; ComponentLink3URL: http://www.national.com/packaging/folders/sqa32a.html
footprint SQA32A (QFN, 32-Leads, Body 5x5mm, Pitch 0.5mm, Thermal Pad 3.2x3.2mm, NSC Recommended)
pins: 1 VRN, 2 VRP, 3 VA (power), 4 AGND (power), 5 VIN+ (in), 6 VIN- (in), 7 AGND (power), 8 VA (power), 9 AGND (power), 10 VA (power), 11 CLK (in), 12 OF/DCS (in), 13 NC, 14 NC, 15 D0 (out), 16 D1 (out), 17 D2 (out), 18 D3 (out), 19 D4 (out), 20 VDR (power), 21 DRDY (out), 22 DRGND (power), 23 D5 (out), 24 D6 (out), 25 D7 (out), 26 D8 (out), 27 D9 (out), 28 D10 (out), 29 D11 (out), 30 PD (in), 31 VREF (power), 32 VCMO, 33 AGND (power)

## ADC12C105CISQE
designator U?
12-Bit, 105 MSPS A/D Converter, 33-pin LLP; PartNumber: ADC12C105CISQE; Manufacturer: National Semiconductor; PackageTopMarking: NS*UZXYTT*12C105E; PowerWise: Y; CompType: ADC IC; DatasheetVersion: Jul-2007; PackageVersion: revB, Oct-2009; PackageReference: SQA32A; PackageDescription: LLP, Quad, 5 x 5 x 0.8mm, 32 Lead, 0.5mm Pitch, No Pullback 3.1 x 3.1 Exposed Pad; RoHS: Y; PinCount: 32; High-Reliability: Y; ComponentLink1Description: ADC12C105 Datasheet; ComponentLink1URL: http://www.national.com/ds/AD/ADC12C105.pdf; ComponentLink2Description: ADC12C105 Web Page; ComponentLink2URL: http://www.national.com/pf/AD/ADC12C105.html; ComponentLink3Description: SQA32A Package Page; ComponentLink3URL: http://www.national.com/packaging/folders/sqa32a.html
footprint SQA32A (QFN, 32-Leads, Body 5x5mm, Pitch 0.5mm, Thermal Pad 3.2x3.2mm, NSC Recommended)
pins: 1 VRN, 2 VRP, 3 VA (power), 4 AGND (power), 5 VIN+ (in), 6 VIN- (in), 7 AGND (power), 8 VA (power), 9 AGND (power), 10 VA (power), 11 CLK (in), 12 OF/DCS (in), 13 NC, 14 NC, 15 D0 (out), 16 D1 (out), 17 D2 (out), 18 D3 (out), 19 D4 (out), 20 VDR (power), 21 DRDY (out), 22 DRGND (power), 23 D5 (out), 24 D6 (out), 25 D7 (out), 26 D8 (out), 27 D9 (out), 28 D10 (out), 29 D11 (out), 30 PD (in), 31 VREF (power), 32 VCMO, 33 AGND (power)

## ADC12C105CISQE/NOPB
designator U?
12-Bit, 105 MSPS A/D Converter, 32-pin LLP, Pb-Free; PartNumber: ADC12C105CISQE/NOPB; Manufacturer: National Semiconductor; PackageTopMarking: NS*UZXYTT*12C105; PowerWise: N; CompType: ADC IC; High-Reliability: Y; DatasheetVersion: Jul-2007; PackageVersion: revB, Oct-2009; PackageReference: SQA32A; PackageDescription: LLP, Quad, 5 x 5 x 0.8mm, 32 Lead, 0.5mm Pitch, No Pullback 3.1 x 3.1 Exposed Pad; RoHS: Y; PinCount: 32; ComponentLink1Description: ADC12C105 Datasheet; ComponentLink1URL: http://www.national.com/ds/AD/ADC12C105.pdf; ComponentLink2Description: ADC12C105 Web Page; ComponentLink2URL: http://www.national.com/pf/AD/ADC12C105.html; ComponentLink3Description: SQA32A Package Page; ComponentLink3URL: http://www.national.com/packaging/folders/sqa32a.html
footprint SQA32A (QFN, 32-Leads, Body 5x5mm, Pitch 0.5mm, Thermal Pad 3.2x3.2mm, NSC Recommended)
pins: 1 VRN, 2 VRP, 3 VA (power), 4 AGND (power), 5 VIN+ (in), 6 VIN- (in), 7 AGND (power), 8 VA (power), 9 AGND (power), 10 VA (power), 11 CLK (in), 12 OF/DCS (in), 13 NC, 14 NC, 15 D0 (out), 16 D1 (out), 17 D2 (out), 18 D3 (out), 19 D4 (out), 20 VDR (power), 21 DRDY (out), 22 DRGND (power), 23 D5 (out), 24 D6 (out), 25 D7 (out), 26 D8 (out), 27 D9 (out), 28 D10 (out), 29 D11 (out), 30 PD (in), 31 VREF (power), 32 VCMO, 33 AGND (power)

## ADC12C170CISQ
designator U?
12-Bit, 170 MSPS, 1.1 GHz Bandwidth A/D Converter with CMOS Outputs, 49-pin LLP; PartNumber: ADC12C170CISQ; Manufacturer: National Semiconductor; PackageTopMarking: NS*UZXYTTE#*ADC12C170; PowerWise: Y; CompType: ADC IC; DatasheetVersion: Apr-2009; PackageVersion: revB, May-2009; PackageReference: SQA48A; PackageDescription: LLP, Plastic, Quad, 7 x 7 x 0.8mm Body, 48 Lead, 0.5mm Pitch, No Pullback; RoHS: N; PinCount: 48; High-Reliability: Y; Code_JEDEC: MO-220-WKKD-2; ComponentLink1Description: ADC12C170 Datasheet; ComponentLink1URL: http://www.national.com/ds/AD/ADC12C170.pdf; ComponentLink2Description: ADC12C170 Web Page; ComponentLink2URL: http://www.national.com/pf/AD/ADC12C170.html; ComponentLink3Description: SQA48A Package Page; ComponentLink3URL: http://www.national.com/packaging/folders/sqa48a.html
footprint SQA48A (QFN, 48-Leads, Body 7x7mm, Pitch 0.5mm, Thermal Pad 5.2x5.2mm, NSC Recommended)
pins: 1 VA (power), 2 AGND (power), 3 VIN- (in), 4 VIN+ (in), 5 AGND (power), 6 VA (power), 7 PD/SLEEP (in), 8 CLK_SEL/DF (in), 9 VA (power), 10 AGND (power), 11 CLK+ (in), 12 CLK- (in), 13 VD (power), 14 DGND (power), 15 VDR (power), 16 DRGND (power), 17 OGND (power), 18 OGND (power), 19 D0 (out), 20 D1 (out), 21 D2 (out), 22 D3 (out), 23 D4 (out), 24 D5 (out), 25 VDR (power), 26 DRGND (power), 27 D6 (out), 28 D7 (out), 29 D8 (out), 30 D9 (out), 31 D10 (out), 32 D11 (out), 33 OVR (out), 34 DRDY (out), 35 DRGND (power), 36 VDR (power), 37 VA (power), 38 AGND (power), 39 AGND (power), 40 VA (power), 41 VA (power), 42 AGND (power), 43 VRP, 44 VRN, 45 VRM, 46 VREF (power), 47 AGND (power), 48 VA (power), 49 DAP (power)

## ADC12D040CIVS
designator U?
Dual 12-Bit, 40 MSPS, 600mW A/D Converter with Internal/External Reference, 64-pin TQFP; PartNumber: ADC12D040CIVS; Manufacturer: National Semiconductor; PackageTopMarking: NSUZXYYTTE#*ADC12D040*CIVS; PowerWise: N; CompType: ADC IC; High-Reliability: Y; DatasheetVersion: Oct-2002; PackageVersion: revB, Jul-2003; PackageReference: VEC64A; PackageDescription: TQFP, Jedec Metric, 10 x 10 x 1.0mm, 64 Lead, 0.5mm Pitch; RoHS: N; PinCount: 64; Code_JEDEC: MS-026-ACD; ComponentLink1Description: ADC12D040 Datasheet; ComponentLink1URL: http://www.national.com/ds/AD/ADC12D040.pdf; ComponentLink2Description: ADC12D040 Web Page; ComponentLink2URL: http://www.national.com/pf/AD/ADC12D040.html; ComponentLink3Description: VEC64A Package Page; ComponentLink3URL: http://www.national.com/packaging/folders/vec64a.html
footprint VEC64A_N (Thin QFP, 64-Leads, Body 10x10mm, Pitch 0.5mm, IPC Medium Density)
footprint VEC64A_L (Thin QFP, 64-Leads, Body 10x10mm, Pitch 0.5mm, IPC High Density)
footprint VEC64A_M (Thin QFP, 64-Leads, Body 10x10mm, Pitch 0.5mm, IPC Low Density)
pins: 1 VINB- (in), 2 VINB+ (in), 3 AGND (power), 4 VRMB, 5 VRPB, 6 VRNB, 7 VREF (power), 8 AGND (power), 9 VA (power), 10 AGND (power), 11 ~{INT}/EXT REF (in), 12 VRNA, 13 VRPA, 14 VRMA, 15 VINA+ (in), 16 VINA- (in), 17 AGND (power), 18 VA (power), 19 VA (power), 20 AGND (power), 21 OF (in), 22 ~{OEA} (in), 23 DRGND (power), 24 DA0 (out), 25 DA1 (out), 26 DA2 (out), 27 DA3 (out), 28 DA4 (out), 29 DA5 (out), 30 VDR (power), 31 DRGND (power), 32 DGND (power), 33 VD (power), 34 DA6 (out), 35 DA7 (out), 36 DA8 (out), 37 DA9 (out), 38 DA10 (out), 39 DA11 (out), 40 DRGND (power), 41 ~{OEB} (in), 42 DB0 (out), 43 DB1 (out), 44 DB2 (out), 45 DB3 (out), 46 DB4 (out), 47 DB5 (out), 48 VD (power), 49 DGND (power), 50 DRGND (power), 51 VDR (power), 52 DB6 (out), 53 DB7 (out), 54 DB8 (out), 55 DB9 (out), 56 DB10 (out), 57 DB11 (out), 58 DRGND (power), 59 PD (in), 60 CLK (in), 61 AGND (power), 62 VA (power), 63 VA (power), 64 AGND (power)

## ADC12D040CIVS/NOPB
designator U?
Dual 12-Bit, 40 MSPS, 600mW A/D Converter with Internal/External Reference, 64-pin TQFP, Pb-Free; PartNumber: ADC12D040CIVS/NOPB; Manufacturer: National Semiconductor; PackageTopMarking: NSUZXYYTTE#*ADC12D040*CIVS; PowerWise: N; CompType: ADC IC; High-Reliability: Y; DatasheetVersion: Oct-2002; PackageVersion: revB, Jul-2003; PackageReference: VEC64A; PackageDescription: TQFP, Jedec Metric, 10 x 10 x 1.0mm, 64 Lead, 0.5mm Pitch; RoHS: Y; PinCount: 64; Code_JEDEC: MS-026-ACD; ComponentLink1Description: ADC12D040 Datasheet; ComponentLink1URL: http://www.national.com/ds/AD/ADC12D040.pdf; ComponentLink2Description: ADC12D040 Web Page; ComponentLink2URL: http://www.national.com/pf/AD/ADC12D040.html; ComponentLink3Description: VEC64A Package Page; ComponentLink3URL: http://www.national.com/packaging/folders/vec64a.html
footprint VEC64A_N (Thin QFP, 64-Leads, Body 10x10mm, Pitch 0.5mm, IPC Medium Density)
footprint VEC64A_L (Thin QFP, 64-Leads, Body 10x10mm, Pitch 0.5mm, IPC High Density)
footprint VEC64A_M (Thin QFP, 64-Leads, Body 10x10mm, Pitch 0.5mm, IPC Low Density)
pins: 1 VINB- (in), 2 VINB+ (in), 3 AGND (power), 4 VRMB, 5 VRPB, 6 VRNB, 7 VREF (power), 8 AGND (power), 9 VA (power), 10 AGND (power), 11 ~{INT}/EXT REF (in), 12 VRNA, 13 VRPA, 14 VRMA, 15 VINA+ (in), 16 VINA- (in), 17 AGND (power), 18 VA (power), 19 VA (power), 20 AGND (power), 21 OF (in), 22 ~{OEA} (in), 23 DRGND (power), 24 DA0 (out), 25 DA1 (out), 26 DA2 (out), 27 DA3 (out), 28 DA4 (out), 29 DA5 (out), 30 VDR (power), 31 DRGND (power), 32 DGND (power), 33 VD (power), 34 DA6 (out), 35 DA7 (out), 36 DA8 (out), 37 DA9 (out), 38 DA10 (out), 39 DA11 (out), 40 DRGND (power), 41 ~{OEB} (in), 42 DB0 (out), 43 DB1 (out), 44 DB2 (out), 45 DB3 (out), 46 DB4 (out), 47 DB5 (out), 48 VD (power), 49 DGND (power), 50 DRGND (power), 51 VDR (power), 52 DB6 (out), 53 DB7 (out), 54 DB8 (out), 55 DB9 (out), 56 DB10 (out), 57 DB11 (out), 58 DRGND (power), 59 PD (in), 60 CLK (in), 61 AGND (power), 62 VA (power), 63 VA (power), 64 AGND (power)

## ADC12D040CIVSX
designator U?
Dual 12-Bit, 40 MSPS, 600mW A/D Converter with Internal/External Reference, 64-pin TQFP; PartNumber: ADC12D040CIVSX; Manufacturer: National Semiconductor; PackageTopMarking: NSUZXYYTTE#*ADC12D040*CIVS; PowerWise: N; CompType: ADC IC; High-Reliability: Y; DatasheetVersion: Oct-2002; PackageVersion: revB, Jul-2003; PackageReference: VEC64A; PackageDescription: TQFP, Jedec Metric, 10 x 10 x 1.0mm, 64 Lead, 0.5mm Pitch; RoHS: N; PinCount: 64; Code_JEDEC: MS-026-ACD; ComponentLink1Description: ADC12D040 Datasheet; ComponentLink1URL: http://www.national.com/ds/AD/ADC12D040.pdf; ComponentLink2Description: ADC12D040 Web Page; ComponentLink2URL: http://www.national.com/pf/AD/ADC12D040.html; ComponentLink3Description: VEC64A Package Page; ComponentLink3URL: http://www.national.com/packaging/folders/vec64a.html
footprint VEC64A_N (Thin QFP, 64-Leads, Body 10x10mm, Pitch 0.5mm, IPC Medium Density)
footprint VEC64A_L (Thin QFP, 64-Leads, Body 10x10mm, Pitch 0.5mm, IPC High Density)
footprint VEC64A_M (Thin QFP, 64-Leads, Body 10x10mm, Pitch 0.5mm, IPC Low Density)
pins: 1 VINB- (in), 2 VINB+ (in), 3 AGND (power), 4 VRMB, 5 VRPB, 6 VRNB, 7 VREF (power), 8 AGND (power), 9 VA (power), 10 AGND (power), 11 ~{INT}/EXT REF (in), 12 VRNA, 13 VRPA, 14 VRMA, 15 VINA+ (in), 16 VINA- (in), 17 AGND (power), 18 VA (power), 19 VA (power), 20 AGND (power), 21 OF (in), 22 ~{OEA} (in), 23 DRGND (power), 24 DA0 (out), 25 DA1 (out), 26 DA2 (out), 27 DA3 (out), 28 DA4 (out), 29 DA5 (out), 30 VDR (power), 31 DRGND (power), 32 DGND (power), 33 VD (power), 34 DA6 (out), 35 DA7 (out), 36 DA8 (out), 37 DA9 (out), 38 DA10 (out), 39 DA11 (out), 40 DRGND (power), 41 ~{OEB} (in), 42 DB0 (out), 43 DB1 (out), 44 DB2 (out), 45 DB3 (out), 46 DB4 (out), 47 DB5 (out), 48 VD (power), 49 DGND (power), 50 DRGND (power), 51 VDR (power), 52 DB6 (out), 53 DB7 (out), 54 DB8 (out), 55 DB9 (out), 56 DB10 (out), 57 DB11 (out), 58 DRGND (power), 59 PD (in), 60 CLK (in), 61 AGND (power), 62 VA (power), 63 VA (power), 64 AGND (power)

## ADC12D040CIVSX/NOPB
designator U?
Dual 12-Bit, 40 MSPS, 600mW A/D Converter with Internal/External Reference, 64-pin TQFP, Pb-Free; PartNumber: ADC12D040CIVSX/NOPB; Manufacturer: National Semiconductor; PackageTopMarking: NSUZXYYTTE#*ADC12D040*CIVS; PowerWise: N; CompType: ADC IC; High-Reliability: Y; DatasheetVersion: Oct-2002; PackageVersion: revB, Jul-2003; PackageReference: VEC64A; PackageDescription: TQFP, Jedec Metric, 10 x 10 x 1.0mm, 64 Lead, 0.5mm Pitch; RoHS: Y; PinCount: 64; Code_JEDEC: MS-026-ACD; ComponentLink1Description: ADC12D040 Datasheet; ComponentLink1URL: http://www.national.com/ds/AD/ADC12D040.pdf; ComponentLink2Description: ADC12D040 Web Page; ComponentLink2URL: http://www.national.com/pf/AD/ADC12D040.html; ComponentLink3Description: VEC64A Package Page; ComponentLink3URL: http://www.national.com/packaging/folders/vec64a.html
footprint VEC64A_N (Thin QFP, 64-Leads, Body 10x10mm, Pitch 0.5mm, IPC Medium Density)
footprint VEC64A_L (Thin QFP, 64-Leads, Body 10x10mm, Pitch 0.5mm, IPC High Density)
footprint VEC64A_M (Thin QFP, 64-Leads, Body 10x10mm, Pitch 0.5mm, IPC Low Density)
pins: 1 VINB- (in), 2 VINB+ (in), 3 AGND (power), 4 VRMB, 5 VRPB, 6 VRNB, 7 VREF (power), 8 AGND (power), 9 VA (power), 10 AGND (power), 11 ~{INT}/EXT REF (in), 12 VRNA, 13 VRPA, 14 VRMA, 15 VINA+ (in), 16 VINA- (in), 17 AGND (power), 18 VA (power), 19 VA (power), 20 AGND (power), 21 OF (in), 22 ~{OEA} (in), 23 DRGND (power), 24 DA0 (out), 25 DA1 (out), 26 DA2 (out), 27 DA3 (out), 28 DA4 (out), 29 DA5 (out), 30 VDR (power), 31 DRGND (power), 32 DGND (power), 33 VD (power), 34 DA6 (out), 35 DA7 (out), 36 DA8 (out), 37 DA9 (out), 38 DA10 (out), 39 DA11 (out), 40 DRGND (power), 41 ~{OEB} (in), 42 DB0 (out), 43 DB1 (out), 44 DB2 (out), 45 DB3 (out), 46 DB4 (out), 47 DB5 (out), 48 VD (power), 49 DGND (power), 50 DRGND (power), 51 VDR (power), 52 DB6 (out), 53 DB7 (out), 54 DB8 (out), 55 DB9 (out), 56 DB10 (out), 57 DB11 (out), 58 DRGND (power), 59 PD (in), 60 CLK (in), 61 AGND (power), 62 VA (power), 63 VA (power), 64 AGND (power)

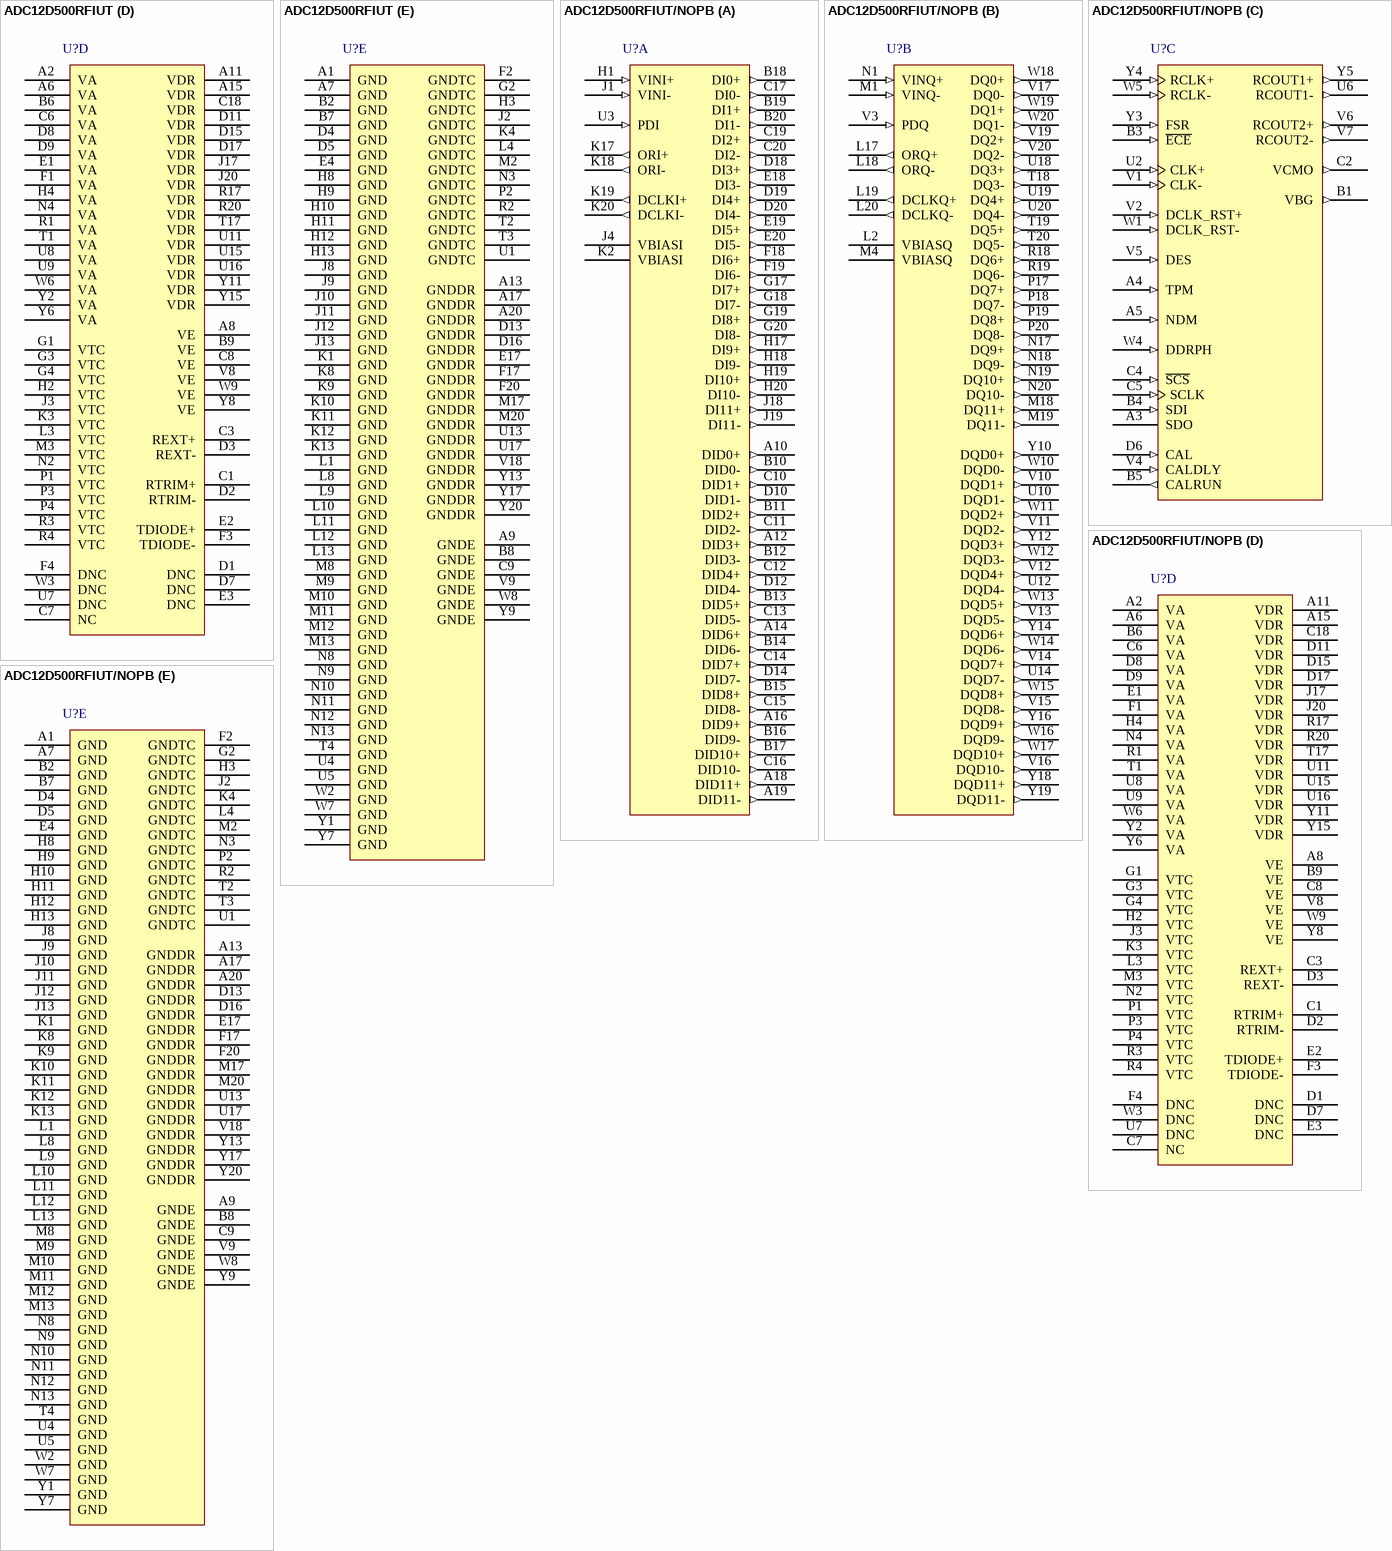
[diagram p14: symbols ADC12D500RFIUT to ADC12D500RFIUT/NOPB]

## ADC12D500RFIUT
designator U?
Low Power, 12-Bit, Dual 500 MSPS or Single 1.0 GSPS ADC, 292-pin TEPBGA; PartNumber: ADC12D500RFIUT; Manufacturer: National Semiconductor; PackageTopMarking: NSUZXYYTTE#*ADC12D500RFIUT; PowerWise: Y; CompType: ADC IC; DatasheetVersion: Mar-2013; PackageVersion: revA, Jul-2001; PackageReference: UFH292A; PackageDescription: TE-PBGA, 27 x 27 x 2.38mm, 292 Ball, 1.27mm Pitch; RoHS: N; PinCount: 292; Code_JEDEC: MS-034-BAL-2; ComponentLink1Description: ADC12D500RF Datasheet; ComponentLink1URL: http://www.ti.com/lit/ds/symlink/adc12d500rf.pdf; ComponentLink2Description: ADC12D500RF Web Page; ComponentLink2URL: http://www.national.com/pf/AD/ADC12D500RF.html; ComponentLink3Description: UFH292A Package Page; ComponentLink3URL: http://www.national.com/packaging/folders/ufh292a.html
footprint UFH292A (BGA, 292-Leads, Body 27x27mm, Pitch 1.27mm)
part A pins: A10 DID0+ (out), A12 DID3+ (out), A14 DID6+ (out), A16 DID9+ (out), A18 DID11+ (out), A19 DID11- (out), B10 DID0- (out), B11 DID2+ (out), B12 DID3- (out), B13 DID5+ (out), B14 DID6- (out), B15 DID8+ (out), B16 DID9- (out), B17 DID10+ (out), B18 DI0+ (out), B19 DI1+ (out), B20 DI1- (out), C10 DID1+ (out), C11 DID2- (out), C12 DID4+ (out), C13 DID5- (out), C14 DID7+ (out), C15 DID8- (out), C16 DID10- (out), C17 DI0- (out), C19 DI2+ (out), C20 DI2- (out), D10 DID1- (out), D12 DID4- (out), D14 DID7- (out), D18 DI3+ (out), D19 DI4+ (out), D20 DI4- (out), E18 DI3- (out), E19 DI5+ (out), E20 DI5- (out), F18 DI6+ (out), F19 DI6- (out), G17 DI7+ (out), G18 DI7- (out), G19 DI8+ (out), G20 DI8- (out), H1 VINI+ (in), H17 DI9+ (out), H18 DI9- (out), H19 DI10+ (out), H20 DI10- (out), J1 VINI- (in), J4 VBIASI, J18 DI11+ (out), J19 DI11- (out), K2 VBIASI, K17 ORI+ (out), K18 ORI- (out), K19 DCLKI+ (out), K20 DCLKI- (out), U3 PDI (in)
part B pins: L2 VBIASQ, L17 ORQ+ (out), L18 ORQ- (out), L19 DCLKQ+ (out), L20 DCLKQ- (out), M1 VINQ- (in), M4 VBIASQ, M18 DQ11+ (out), M19 DQ11- (out), N1 VINQ+ (in), N17 DQ9+ (out), N18 DQ9- (out), N19 DQ10+ (out), N20 DQ10- (out), P17 DQ7+ (out), P18 DQ7- (out), P19 DQ8+ (out), P20 DQ8- (out), R18 DQ6+ (out), R19 DQ6- (out), T18 DQ3- (out), T19 DQ5+ (out), T20 DQ5- (out), U10 DQD1- (out), U12 DQD4- (out), U14 DQD7- (out), U18 DQ3+ (out), U19 DQ4+ (out), U20 DQ4- (out), V3 PDQ (in), V10 DQD1+ (out), V11 DQD2- (out), V12 DQD4+ (out), V13 DQD5- (out), V14 DQD7+ (out), V15 DQD8- (out), V16 DQD10- (out), V17 DQ0- (out), V19 DQ2+ (out), V20 DQ2- (out), W10 DQD0- (out), W11 DQD2+ (out), W12 DQD3- (out), W13 DQD5+ (out), W14 DQD6- (out), W15 DQD8+ (out), W16 DQD9- (out), W17 DQD10+ (out), W18 DQ0+ (out), W19 DQ1+ (out), W20 DQ1- (out), Y10 DQD0+ (out), Y12 DQD3+ (out), Y14 DQD6+ (out), Y16 DQD9+ (out), Y18 DQD11+ (out), Y19 DQD11- (out)
part C pins: A3 SDO (oe), A4 TPM (in), A5 NDM (in), B1 VBG (out), B3 ~{ECE} (in), B4 SDI (in), B5 CALRUN (out), C2 VCMO (out), C4 ~{SCS} (in), C5 SCLK (in), D6 CAL (in), U2 CLK+ (in), U6 RCOUT1- (out), V1 CLK- (in), V2 DCLK_RST+ (in), V4 CALDLY (in), V5 DES (in), V6 RCOUT2+ (out), V7 RCOUT2- (out), W1 DCLK_RST- (in), W4 DDRPH (in), W5 RCLK- (in), Y3 FSR (in), Y4 RCLK+ (in), Y5 RCOUT1+ (out)
part D pins: A2 VA (power), A6 VA (power), A8 VE (power), A11 VDR (power), A15 VDR (power), B6 VA (power), B9 VE (power), C1 RTRIM+, C3 REXT+, C6 VA (power), C7 NC, C8 VE (power), C18 VDR (power), D1 DNC, D2 RTRIM-, D3 REXT-, D7 DNC, D8 VA (power), D9 VA (power), D11 VDR (power), D15 VDR (power), D17 VDR (power), E1 VA (power), E2 TDIODE+, E3 DNC, F1 VA (power), F3 TDIODE-, F4 DNC, G1 VTC (power), G3 VTC (power), G4 VTC (power), H2 VTC (power), H4 VA (power), J3 VTC (power), J17 VDR (power), J20 VDR (power), K3 VTC (power), L3 VTC (power), M3 VTC (power), N2 VTC (power), N4 VA (power), P1 VTC (power), P3 VTC (power), P4 VTC (power), R1 VA (power), R3 VTC (power), R4 VTC (power), R17 VDR (power), R20 VDR (power), T1 VA (power), T17 VDR (power), U7 DNC, U8 VA (power), U9 VA (power), U11 VDR (power), U15 VDR (power), U16 VDR (power), V8 VE (power), W3 DNC, W6 VA (power), W9 VE (power), Y2 VA (power), Y6 VA (power), Y8 VE (power), Y11 VDR (power), Y15 VDR (power)
part E pins: A1 GND (power), A7 GND (power), A9 GNDE (power), A13 GNDDR (power), A17 GNDDR (power), A20 GNDDR (power), B2 GND (power), B7 GND (power), B8 GNDE (power), C9 GNDE (power), D4 GND (power), D5 GND (power), D13 GNDDR (power), D16 GNDDR (power), E4 GND (power), E17 GNDDR (power), F2 GNDTC (power), F17 GNDDR (power), F20 GNDDR (power), G2 GNDTC (power), H3 GNDTC (power), H8 GND (power), H9 GND (power), H10 GND (power), H11 GND (power), H12 GND (power), H13 GND (power), J2 GNDTC (power), J8 GND (power), J9 GND (power), J10 GND (power), J11 GND (power), J12 GND (power), J13 GND (power), K1 GND (power), K4 GNDTC (power), K8 GND (power), K9 GND (power), K10 GND (power), K11 GND (power), K12 GND (power), K13 GND (power), L1 GND (power), L4 GNDTC (power), L8 GND (power), L9 GND (power), L10 GND (power), L11 GND (power), L12 GND (power), L13 GND (power), M2 GNDTC (power), M8 GND (power), M9 GND (power), M10 GND (power), M11 GND (power), M12 GND (power), M13 GND (power), M17 GNDDR (power), M20 GNDDR (power), N3 GNDTC (power), N8 GND (power), N9 GND (power), N10 GND (power), N11 GND (power), N12 GND (power), N13 GND (power), P2 GNDTC (power), R2 GNDTC (power), T2 GNDTC (power), T3 GNDTC (power), T4 GND (power), U1 GNDTC (power), U4 GND (power), U5 GND (power), U13 GNDDR (power), U17 GNDDR (power), V9 GNDE (power), V18 GNDDR (power), W2 GND (power), W7 GND (power), W8 GNDE (power), Y1 GND (power), Y7 GND (power), Y9 GNDE (power), Y13 GNDDR (power), Y17 GNDDR (power), Y20 GNDDR (power)

## ADC12D500RFIUT/NOPB
designator U?
Low Power, 12-Bit, Dual 500 MSPS or Single 1.0 GSPS ADC, 292-pin TEPBGA; PartNumber: ADC12D500RFIUT/NOPB; Manufacturer: National Semiconductor; PackageTopMarking: NSUZXYYTTE#*ADC12D500RFIUT; PowerWise: Y; CompType: ADC IC; DatasheetVersion: Mar-2013; PackageVersion: revA, Jul-2001; PackageReference: UFH292A; PackageDescription: TE-PBGA, 27 x 27 x 2.38mm, 292 Ball, 1.27mm Pitch; RoHS: Y; PinCount: 292; Code_JEDEC: MS-034-BAL-2; ComponentLink1Description: ADC12D500RF Datasheet; ComponentLink1URL: http://www.ti.com/lit/ds/symlink/adc12d500rf.pdf; ComponentLink2Description: ADC12D500RF Web Page; ComponentLink2URL: http://www.national.com/pf/AD/ADC12D500RF.html; ComponentLink3Description: UFH292A Package Page; ComponentLink3URL: http://www.national.com/packaging/folders/ufh292a.html
footprint UFH292A (BGA, 292-Leads, Body 27x27mm, Pitch 1.27mm)
part A pins: A10 DID0+ (out), A12 DID3+ (out), A14 DID6+ (out), A16 DID9+ (out), A18 DID11+ (out), A19 DID11- (out), B10 DID0- (out), B11 DID2+ (out), B12 DID3- (out), B13 DID5+ (out), B14 DID6- (out), B15 DID8+ (out), B16 DID9- (out), B17 DID10+ (out), B18 DI0+ (out), B19 DI1+ (out), B20 DI1- (out), C10 DID1+ (out), C11 DID2- (out), C12 DID4+ (out), C13 DID5- (out), C14 DID7+ (out), C15 DID8- (out), C16 DID10- (out), C17 DI0- (out), C19 DI2+ (out), C20 DI2- (out), D10 DID1- (out), D12 DID4- (out), D14 DID7- (out), D18 DI3+ (out), D19 DI4+ (out), D20 DI4- (out), E18 DI3- (out), E19 DI5+ (out), E20 DI5- (out), F18 DI6+ (out), F19 DI6- (out), G17 DI7+ (out), G18 DI7- (out), G19 DI8+ (out), G20 DI8- (out), H1 VINI+ (in), H17 DI9+ (out), H18 DI9- (out), H19 DI10+ (out), H20 DI10- (out), J1 VINI- (in), J4 VBIASI, J18 DI11+ (out), J19 DI11- (out), K2 VBIASI, K17 ORI+ (out), K18 ORI- (out), K19 DCLKI+ (out), K20 DCLKI- (out), U3 PDI (in)
part B pins: L2 VBIASQ, L17 ORQ+ (out), L18 ORQ- (out), L19 DCLKQ+ (out), L20 DCLKQ- (out), M1 VINQ- (in), M4 VBIASQ, M18 DQ11+ (out), M19 DQ11- (out), N1 VINQ+ (in), N17 DQ9+ (out), N18 DQ9- (out), N19 DQ10+ (out), N20 DQ10- (out), P17 DQ7+ (out), P18 DQ7- (out), P19 DQ8+ (out), P20 DQ8- (out), R18 DQ6+ (out), R19 DQ6- (out), T18 DQ3- (out), T19 DQ5+ (out), T20 DQ5- (out), U10 DQD1- (out), U12 DQD4- (out), U14 DQD7- (out), U18 DQ3+ (out), U19 DQ4+ (out), U20 DQ4- (out), V3 PDQ (in), V10 DQD1+ (out), V11 DQD2- (out), V12 DQD4+ (out), V13 DQD5- (out), V14 DQD7+ (out), V15 DQD8- (out), V16 DQD10- (out), V17 DQ0- (out), V19 DQ2+ (out), V20 DQ2- (out), W10 DQD0- (out), W11 DQD2+ (out), W12 DQD3- (out), W13 DQD5+ (out), W14 DQD6- (out), W15 DQD8+ (out), W16 DQD9- (out), W17 DQD10+ (out), W18 DQ0+ (out), W19 DQ1+ (out), W20 DQ1- (out), Y10 DQD0+ (out), Y12 DQD3+ (out), Y14 DQD6+ (out), Y16 DQD9+ (out), Y18 DQD11+ (out), Y19 DQD11- (out)
part C pins: A3 SDO (oe), A4 TPM (in), A5 NDM (in), B1 VBG (out), B3 ~{ECE} (in), B4 SDI (in), B5 CALRUN (out), C2 VCMO (out), C4 ~{SCS} (in), C5 SCLK (in), D6 CAL (in), U2 CLK+ (in), U6 RCOUT1- (out), V1 CLK- (in), V2 DCLK_RST+ (in), V4 CALDLY (in), V5 DES (in), V6 RCOUT2+ (out), V7 RCOUT2- (out), W1 DCLK_RST- (in), W4 DDRPH (in), W5 RCLK- (in), Y3 FSR (in), Y4 RCLK+ (in), Y5 RCOUT1+ (out)
part D pins: A2 VA (power), A6 VA (power), A8 VE (power), A11 VDR (power), A15 VDR (power), B6 VA (power), B9 VE (power), C1 RTRIM+, C3 REXT+, C6 VA (power), C7 NC, C8 VE (power), C18 VDR (power), D1 DNC, D2 RTRIM-, D3 REXT-, D7 DNC, D8 VA (power), D9 VA (power), D11 VDR (power), D15 VDR (power), D17 VDR (power), E1 VA (power), E2 TDIODE+, E3 DNC, F1 VA (power), F3 TDIODE-, F4 DNC, G1 VTC (power), G3 VTC (power), G4 VTC (power), H2 VTC (power), H4 VA (power), J3 VTC (power), J17 VDR (power), J20 VDR (power), K3 VTC (power), L3 VTC (power), M3 VTC (power), N2 VTC (power), N4 VA (power), P1 VTC (power), P3 VTC (power), P4 VTC (power), R1 VA (power), R3 VTC (power), R4 VTC (power), R17 VDR (power), R20 VDR (power), T1 VA (power), T17 VDR (power), U7 DNC, U8 VA (power), U9 VA (power), U11 VDR (power), U15 VDR (power), U16 VDR (power), V8 VE (power), W3 DNC, W6 VA (power), W9 VE (power), Y2 VA (power), Y6 VA (power), Y8 VE (power), Y11 VDR (power), Y15 VDR (power)
part E pins: A1 GND (power), A7 GND (power), A9 GNDE (power), A13 GNDDR (power), A17 GNDDR (power), A20 GNDDR (power), B2 GND (power), B7 GND (power), B8 GNDE (power), C9 GNDE (power), D4 GND (power), D5 GND (power), D13 GNDDR (power), D16 GNDDR (power), E4 GND (power), E17 GNDDR (power), F2 GNDTC (power), F17 GNDDR (power), F20 GNDDR (power), G2 GNDTC (power), H3 GNDTC (power), H8 GND (power), H9 GND (power), H10 GND (power), H11 GND (power), H12 GND (power), H13 GND (power), J2 GNDTC (power), J8 GND (power), J9 GND (power), J10 GND (power), J11 GND (power), J12 GND (power), J13 GND (power), K1 GND (power), K4 GNDTC (power), K8 GND (power), K9 GND (power), K10 GND (power), K11 GND (power), K12 GND (power), K13 GND (power), L1 GND (power), L4 GNDTC (power), L8 GND (power), L9 GND (power), L10 GND (power), L11 GND (power), L12 GND (power), L13 GND (power), M2 GNDTC (power), M8 GND (power), M9 GND (power), M10 GND (power), M11 GND (power), M12 GND (power), M13 GND (power), M17 GNDDR (power), M20 GNDDR (power), N3 GNDTC (power), N8 GND (power), N9 GND (power), N10 GND (power), N11 GND (power), N12 GND (power), N13 GND (power), P2 GNDTC (power), R2 GNDTC (power), T2 GNDTC (power), T3 GNDTC (power), T4 GND (power), U1 GNDTC (power), U4 GND (power), U5 GND (power), U13 GNDDR (power), U17 GNDDR (power), V9 GNDE (power), V18 GNDDR (power), W2 GND (power), W7 GND (power), W8 GNDE (power), Y1 GND (power), Y7 GND (power), Y9 GNDE (power), Y13 GNDDR (power), Y17 GNDDR (power), Y20 GNDDR (power)

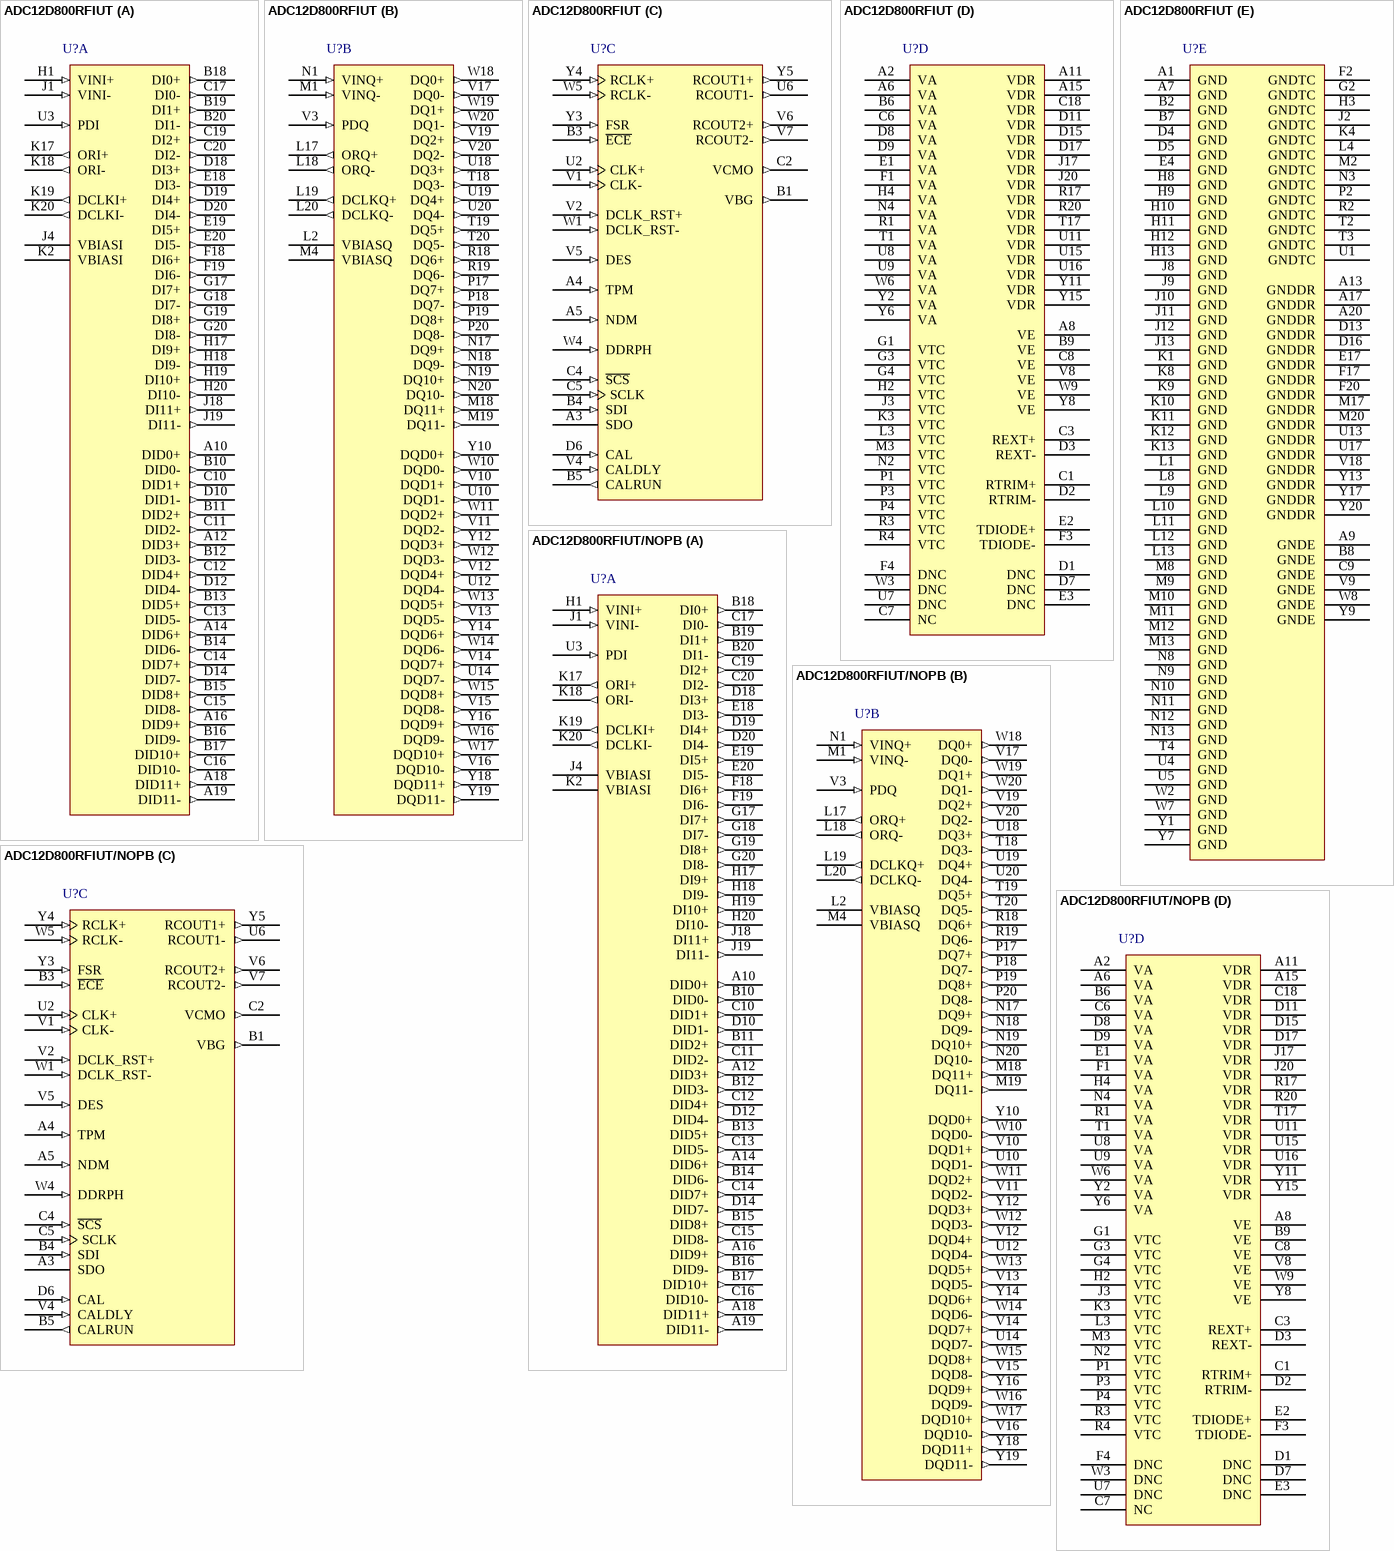
[diagram p15: symbols ADC12D800RFIUT to ADC12D800RFIUT/NOPB]